# Altium schematic symbol library devices.SCHLIB: 305 symbols (part 4 of 5)
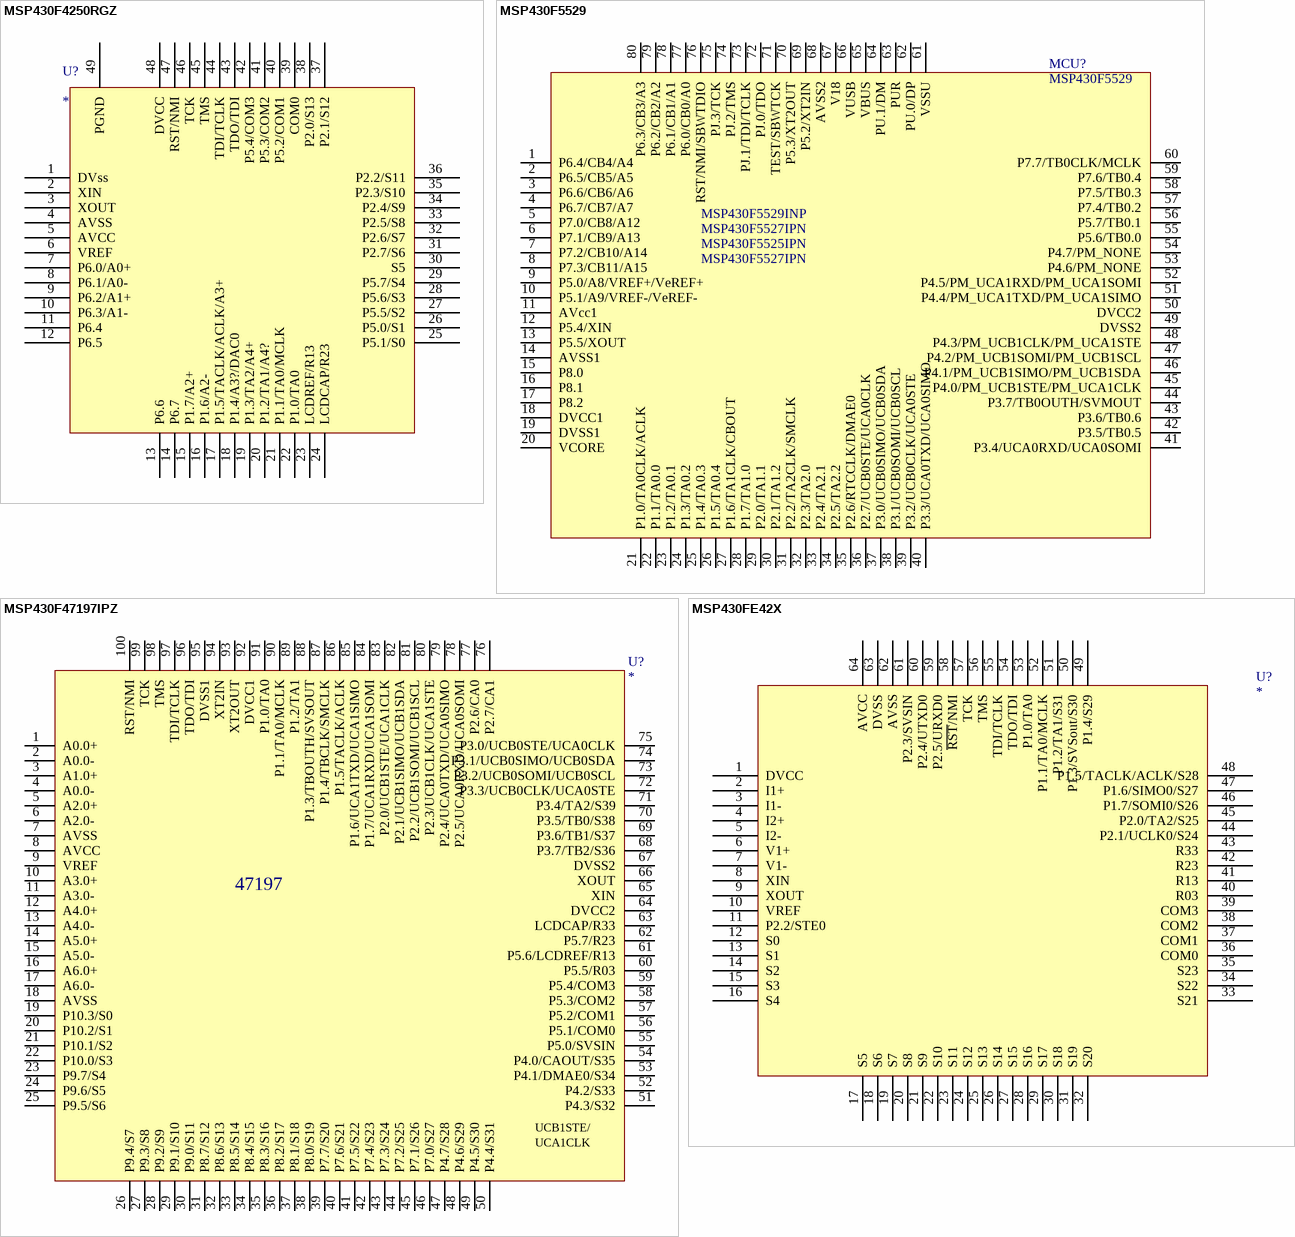
[diagram p52: symbols MSP430F4250RGZ to MSP430FE42X]

## MSP430F5529
designator MCU?
footprint S-PQFP-G80
pins: 1 P6.4/CB4/A4, 2 P6.5/CB5/A5, 3 P6.6/CB6/A6, 4 P6.7/CB7/A7, 5 P7.0/CB8/A12, 6 P7.1/CB9/A13, 7 P7.2/CB10/A14, 8 P7.3/CB11/A15, 9 P5.0/A8/VREF+/VeREF+, 10 P5.1/A9/VREF-/VeREF-, 11 AVcc1, 12 P5.4/XIN, 13 P5.5/XOUT, 14 AVSS1, 15 P8.0, 16 P8.1, 17 P8.2, 18 DVCC1, 19 DVSS1, 20 VCORE, 21 P1.0/TA0CLK/ACLK, 22 P1.1/TA0.0, 23 P1.2/TA0.1, 24 P1.3/TA0.2, 25 P1.4/TA0.3, 26 P1.5/TA0.4, 27 P1.6/TA1CLK/CBOUT, 28 P1.7/TA1.0, 29 P2.0/TA1.1, 30 P2.1/TA1.2, 31 P2.2/TA2CLK/SMCLK, 32 P2.3/TA2.0, 33 P2.4/TA2.1, 34 P2.5/TA2.2, 35 P2.6/RTCCLK/DMAE0, 36 P2.7/UCB0STE/UCA0CLK, 37 P3.0/UCB0SIMO/UCB0SDA, 38 P3.1/UCB0SOMI/UCB0SCL, 39 P3.2/UCB0CLK/UCA0STE, 40 P3.3/UCA0TXD/UCA0SIMO, 41 P3.4/UCA0RXD/UCA0SOMI, 42 P3.5/TB0.5, 43 P3.6/TB0.6, 44 P3.7/TB0OUTH/SVMOUT, 45 P4.0/PM_UCB1STE/PM_UCA1CLK, 46 P4.1/PM_UCB1SIMO/PM_UCB1SDA, 47 P4.2/PM_UCB1SOMI/PM_UCB1SCL, 48 P4.3/PM_UCB1CLK/PM_UCA1STE, 49 DVSS2, 50 DVCC2, 51 P4.4/PM_UCA1TXD/PM_UCA1SIMO, 52 P4.5/PM_UCA1RXD/PM_UCA1SOMI, 53 P4.6/PM_NONE, 54 P4.7/PM_NONE, 55 P5.6/TB0.0, 56 P5.7/TB0.1, 57 P7.4/TB0.2, 58 P7.5/TB0.3, 59 P7.6/TB0.4, 60 P7.7/TB0CLK/MCLK, 61 VSSU, 62 PU.0/DP, 63 PUR, 64 PU.1/DM, 65 VBUS, 66 VUSB, 67 V18, 68 AVSS2, 69 P5.2/XT2IN, 70 P5.3/XT2OUT, 71 TEST/SBWTCK, 72 PJ.0/TDO, 73 PJ.1/TDI/TCLK, 74 PJ.2/TMS, 75 PJ.3/TCK, 76 RST/NMI/SBWTDIO, 77 P6.0/CB0/A0, 78 P6.1/CB1/A1, 79 P6.2/CB2/A2, 80 P6.3/CB3/A3
text: MSP430F5529INP; MSP430F5527IPN; MSP430F5525IPN

## MSP430F47197IPZ
designator U?
footprint S-PQFP-G100
pins: 1 A0.0+, 2 A0.0-, 3 A1.0+, 4 A0.0-, 5 A2.0+, 6 A2.0-, 7 AVSS, 8 AVCC, 9 VREF, 10 A3.0+, 11 A3.0-, 12 A4.0+, 13 A4.0-, 14 A5.0+, 15 A5.0-, 16 A6.0+, 17 A6.0-, 18 AVSS, 19 P10.3/S0, 20 P10.2/S1, 21 P10.1/S2, 22 P10.0/S3, 23 P9.7/S4, 24 P9.6/S5, 25 P9.5/S6, 26 P9.4/S7, 27 P9.3/S8, 28 P9.2/S9, 29 P9.1/S10, 30 P9.0/S11, 31 P8.7/S12, 32 P8.6/S13, 33 P8.5/S14, 34 P8.4/S15, 35 P8.3/S16, 36 P8.2/S17, 37 P8.1/S18, 38 P8.0/S19, 39 P7.7/S20, 40 P7.6/S21, 41 P7.5/S22, 42 P7.4/S23, 43 P7.3/S24, 44 P7.2/S25, 45 P7.1/S26, 46 P7.0/S27, 47 P4.7/S28, 48 P4.6/S29, 49 P4.5/S30, 50 P4.4/S31, 51 P4.3/S32, 52 P4.2/S33, 53 P4.1/DMAE0/S34, 54 P4.0/CAOUT/S35, 55 P5.0/SVSIN, 56 P5.1/COM0, 57 P5.2/COM1, 58 P5.3/COM2, 59 P5.4/COM3, 60 P5.5/R03, 61 P5.6/LCDREF/R13, 62 P5.7/R23, 63 LCDCAP/R33, 64 DVCC2, 65 XIN, 66 XOUT, 67 DVSS2, 68 P3.7/TB2/S36, 69 P3.6/TB1/S37, 70 P3.5/TB0/S38, 71 P3.4/TA2/S39, 72 P3.3/UCB0CLK/UCA0STE, 73 P3.2/UCB0SOMI/UCB0SCL, 74 P3.1/UCB0SIMO/UCB0SDA, 75 P3.0/UCB0STE/UCA0CLK, 76 P2.7/CA1, 77 P2.6/CA0, 78 P2.5/UCA0RXD/UCA0SOMI, 79 P2.4/UCA0TXD/UCA0SIMO, 80 P2.3/UCB1CLK/UCA1STE, 81 P2.2/UCB1SOMI/UCB1SCL, 82 P2.1/UCB1SIMO/UCB1SDA, 83 P2.0/UCB1STE/UCA1CLK, 84 P1.7/UCA1RXD/UCA1SOMI, 85 P1.6/UCA1TXD/UCA1SIMO, 86 P1.5/TACLK/ACLK, 87 P1.4/TBCLK/SMCLK, 88 P1.3/TBOUTH/SVSOUT, 89 P1.2/TA1, 90 P1.1/TA0/MCLK, 91 P1.0/TA0, 92 DVCC1, 93 XT2OUT, 94 XT2IN, 95 DVSS1, 96 TDO/TDI, 97 TDI/TCLK, 98 TMS, 99 TCK, 100 RST/NMI
text: 47197; UCB1STE/; UCA1CLK

## MSP430FE42X
designator U?
footprint S-PQFP-G64
pins: 1 DVCC, 2 I1+, 3 I1-, 4 I2+, 5 I2-, 6 V1+, 7 V1-, 8 XIN, 9 XOUT, 10 VREF, 11 P2.2/STE0, 12 S0, 13 S1, 14 S2, 15 S3, 16 S4, 17 S5, 18 S6, 19 S7, 20 S8, 21 S9, 22 S10, 23 S11, 24 S12, 25 S13, 26 S14, 27 S15, 28 S16, 29 S17, 30 S18, 31 S19, 32 S20, 33 S21, 34 S22, 35 S23, 36 COM0, 37 COM1, 38 COM2, 39 COM3, 40 R03, 41 R13, 42 R23, 43 R33, 44 P2.1/UCLK0/S24, 45 P2.0/TA2/S25, 46 P1.7/SOMI0/S26, 47 P1.6/SIMO0/S27, 48 P1.5/TACLK/ACLK/S28, 49 P1.4/S29, 50 P1.3/SVSout/S30, 51 P1.2/TA1/S31, 52 P1.1/TA0/MCLK, 53 P1.0/TA0, 54 TDO/TDI, 55 TDI/TCLK, 56 TMS, 57 TCK, 58 ~{RST}/NMI, 59 P2.5/URXD0, 60 P2.4/UTXD0, 61 P2.3/SVSIN, 62 AVSS, 63 DVSS, 64 AVCC

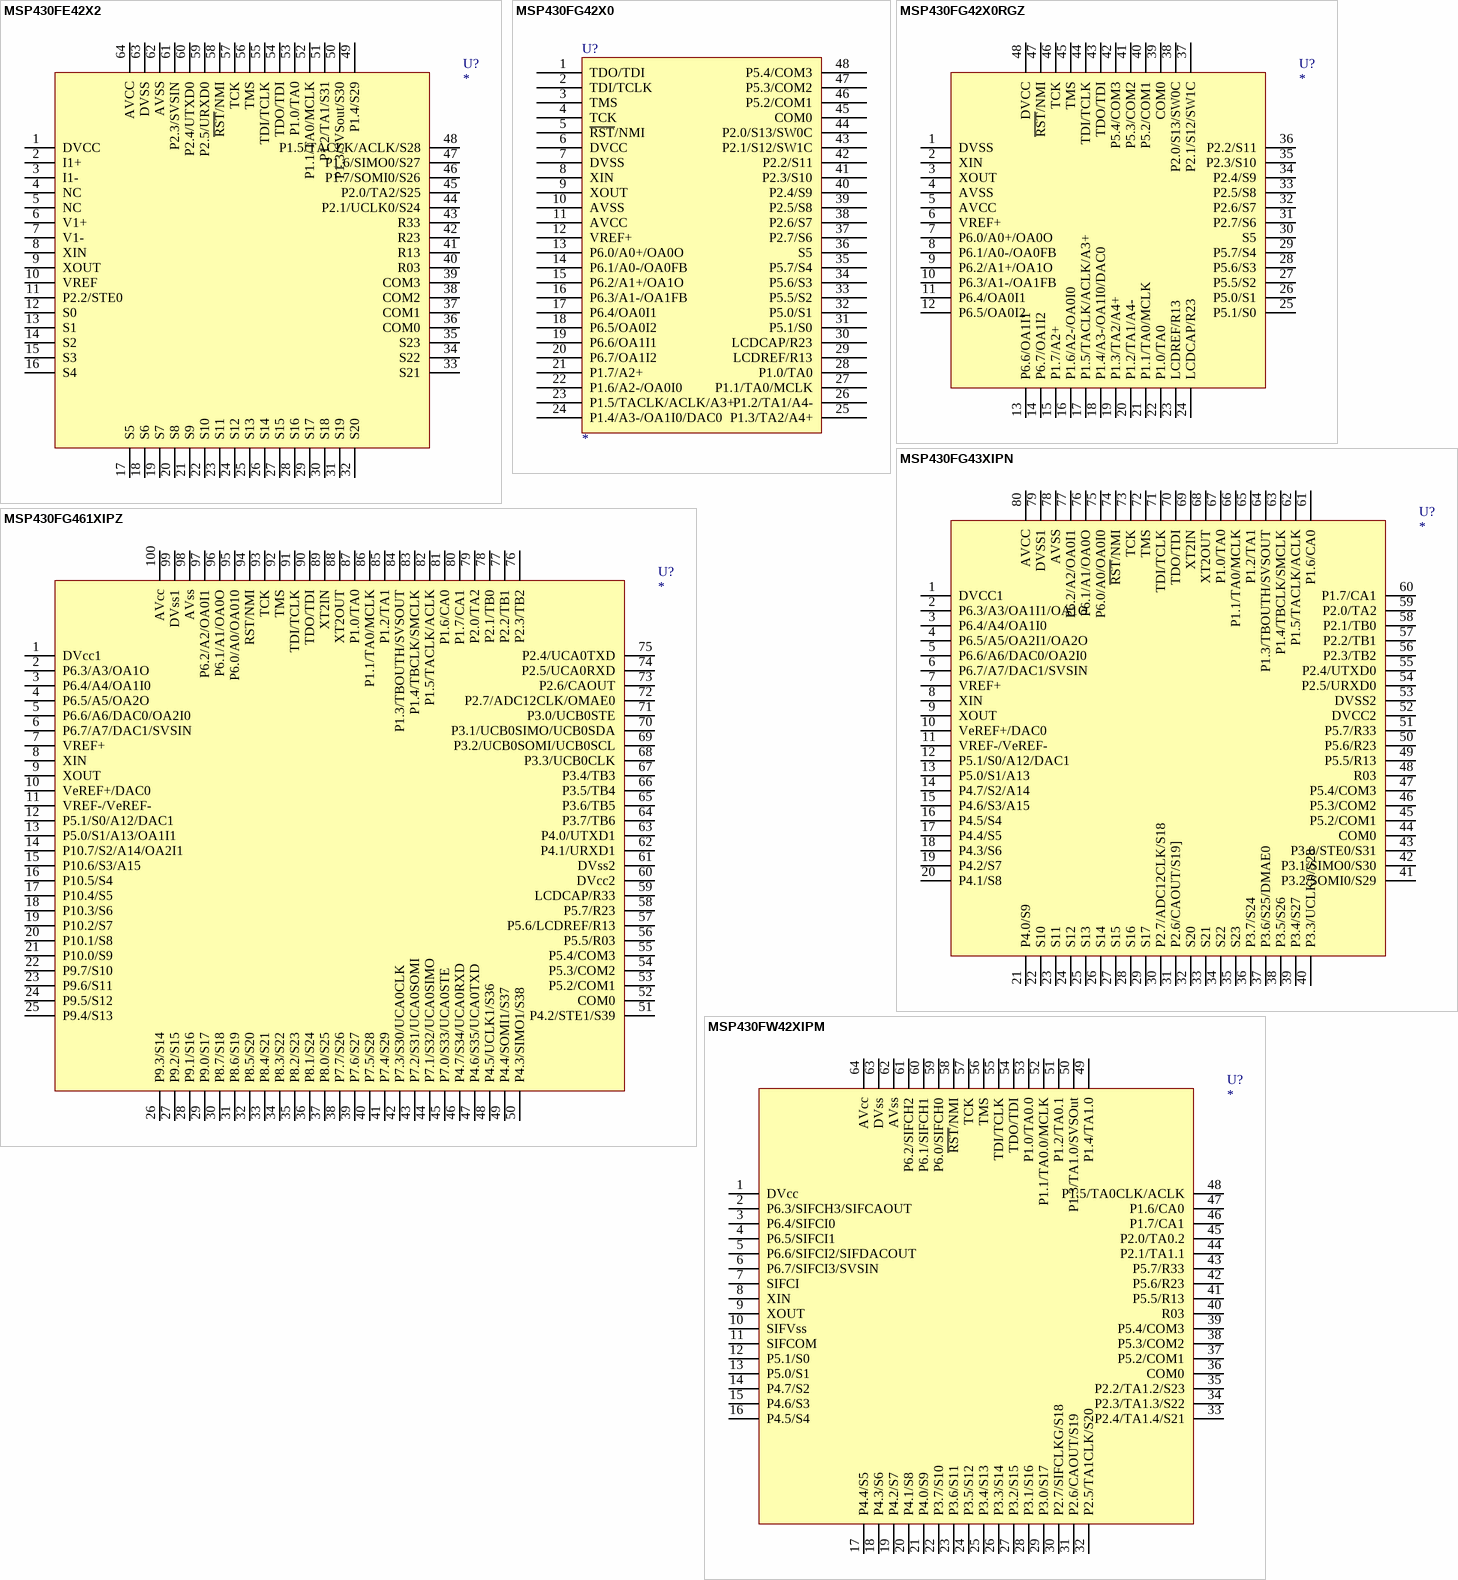
[diagram p23: symbols MSP430FE42X2 to MSP430FW42XIPM]

## MSP430FE42X2
designator U?
footprint S-PQFP-G64
pins: 1 DVCC, 2 I1+, 3 I1-, 4 NC, 5 NC, 6 V1+, 7 V1-, 8 XIN, 9 XOUT, 10 VREF, 11 P2.2/STE0, 12 S0, 13 S1, 14 S2, 15 S3, 16 S4, 17 S5, 18 S6, 19 S7, 20 S8, 21 S9, 22 S10, 23 S11, 24 S12, 25 S13, 26 S14, 27 S15, 28 S16, 29 S17, 30 S18, 31 S19, 32 S20, 33 S21, 34 S22, 35 S23, 36 COM0, 37 COM1, 38 COM2, 39 COM3, 40 R03, 41 R13, 42 R23, 43 R33, 44 P2.1/UCLK0/S24, 45 P2.0/TA2/S25, 46 P1.7/SOMI0/S26, 47 P1.6/SIMO0/S27, 48 P1.5/TACLK/ACLK/S28, 49 P1.4/S29, 50 P1.3/SVSout/S30, 51 P1.2/TA1/S31, 52 P1.1/TA0/MCLK, 53 P1.0/TA0, 54 TDO/TDI, 55 TDI/TCLK, 56 TMS, 57 TCK, 58 ~{RST}/NMI, 59 P2.5/URXD0, 60 P2.4/UTXD0, 61 P2.3/SVSIN, 62 AVSS, 63 DVSS, 64 AVCC

## MSP430FG42X0
designator U?
footprint SSOP48
pins: 1 TDO/TDI, 2 TDI/TCLK (power), 3 TMS (power), 4 TCK (power), 5 ~{RST}/NMI (power), 6 DVCC (power), 7 DVSS (power), 8 XIN (power), 9 XOUT (power), 10 AVSS (power), 11 AVCC (power), 12 VREF+ (power), 13 P6.0/A0+/OA0O (power), 14 P6.1/A0-/OA0FB (power), 15 P6.2/A1+/OA1O (power), 16 P6.3/A1-/OA1FB (power), 17 P6.4/OA0I1 (power), 18 P6.5/OA0I2 (power), 19 P6.6/OA1I1 (power), 20 P6.7/OA1I2 (power), 21 P1.7/A2+, 22 P1.6/A2-/OA0I0, 23 P1.5/TACLK/ACLK/A3+, 24 P1.4/A3-/OA1I0/DAC0, 25 P1.3/TA2/A4+, 26 P1.2/TA1/A4-, 27 P1.1/TA0/MCLK, 28 P1.0/TA0, 29 LCDREF/R13, 30 LCDCAP/R23, 31 P5.1/S0, 32 P5.0/S1, 33 P5.5/S2, 34 P5.6/S3, 35 P5.7/S4, 36 S5, 37 P2.7/S6, 38 P2.6/S7, 39 P2.5/S8, 40 P2.4/S9, 41 P2.3/S10, 42 P2.2/S11, 43 P2.1/S12/SW1C, 44 P2.0/S13/SW0C, 45 COM0, 46 P5.2/COM1, 47 P5.3/COM2, 48 P5.4/COM3

## MSP430FG42X0RGZ
designator U?
footprint QLP48
pins: 1 DVSS (power), 2 XIN (power), 3 XOUT (power), 4 AVSS (power), 5 AVCC (power), 6 VREF+ (power), 7 P6.0/A0+/OA0O (power), 8 P6.1/A0-/OA0FB (power), 9 P6.2/A1+/OA1O (power), 10 P6.3/A1-/OA1FB (power), 11 P6.4/OA0I1 (power), 12 P6.5/OA0I2 (power), 13 P6.6/OA1I1 (power), 14 P6.7/OA1I2 (power), 15 P1.7/A2+, 16 P1.6/A2-/OA0I0, 17 P1.5/TACLK/ACLK/A3+, 18 P1.4/A3-/OA1I0/DAC0, 19 P1.3/TA2/A4+, 20 P1.2/TA1/A4-, 21 P1.1/TA0/MCLK, 22 P1.0/TA0, 23 LCDREF/R13, 24 LCDCAP/R23, 25 P5.1/S0, 26 P5.0/S1, 27 P5.5/S2, 28 P5.6/S3, 29 P5.7/S4, 30 S5, 31 P2.7/S6, 32 P2.6/S7, 33 P2.5/S8, 34 P2.4/S9, 35 P2.3/S10, 36 P2.2/S11, 37 P2.1/S12/SW1C, 38 P2.0/S13/SW0C, 39 COM0, 40 P5.2/COM1, 41 P5.3/COM2, 42 P5.4/COM3, 43 TDO/TDI, 44 TDI/TCLK (power), 45 TMS (power), 46 TCK (power), 47 ~{RST}/NMI (power), 48 DVCC (power)

## MSP430FG43XIPN
designator U?
footprint S-PQFP-G80
pins: 1 DVCC1, 2 P6.3/A3/OA1I1/OA1O, 3 P6.4/A4/OA1I0, 4 P6.5/A5/OA2I1/OA2O, 5 P6.6/A6/DAC0/OA2I0, 6 P6.7/A7/DAC1/SVSIN, 7 VREF+, 8 XIN, 9 XOUT, 10 VeREF+/DAC0, 11 VREF-/VeREF-, 12 P5.1/S0/A12/DAC1, 13 P5.0/S1/A13, 14 P4.7/S2/A14, 15 P4.6/S3/A15, 16 P4.5/S4, 17 P4.4/S5, 18 P4.3/S6, 19 P4.2/S7, 20 P4.1/S8, 21 P4.0/S9, 22 S10, 23 S11, 24 S12, 25 S13, 26 S14, 27 S15, 28 S16, 29 S17, 30 P2.7/ADC12CLK/S18, 31 P2.6/CAOUT/S19], 32 S20, 33 S21, 34 S22, 35 S23, 36 P3.7/S24, 37 P3.6/S25/DMAE0, 38 P3.5/S26, 39 P3.4/S27, 40 P3.3/UCLK0/S28, 41 P3.2/SOMI0/S29, 42 P3.1/SIMO0/S30, 43 P3.0/STE0/S31, 44 COM0, 45 P5.2/COM1, 46 P5.3/COM2, 47 P5.4/COM3, 48 R03, 49 P5.5/R13, 50 P5.6/R23, 51 P5.7/R33, 52 DVCC2, 53 DVSS2, 54 P2.5/URXD0, 55 P2.4/UTXD0, 56 P2.3/TB2, 57 P2.2/TB1, 58 P2.1/TB0, 59 P2.0/TA2, 60 P1.7/CA1, 61 P1.6/CA0, 62 P1.5/TACLK/ACLK, 63 P1.4/TBCLK/SMCLK, 64 P1.3/TBOUTH/SVSOUT, 65 P1.2/TA1, 66 P1.1/TA0/MCLK, 67 P1.0/TA0, 68 XT2OUT, 69 XT2IN, 70 TDO/TDI, 71 TDI/TCLK, 72 TMS, 73 TCK, 74 ~{RST}/NMI, 75 P6.0/A0/OA0I0, 76 P6.1/A1/OA0O, 77 P6.2/A2/OA0I1, 78 AVSS, 79 DVSS1, 80 AVCC

## MSP430FG461XIPZ
designator U?
footprint S-PQFP-G100
pins: 1 DVcc1, 2 P6.3/A3/OA1O, 3 P6.4/A4/OA1I0, 4 P6.5/A5/OA2O, 5 P6.6/A6/DAC0/OA2I0, 6 P6.7/A7/DAC1/SVSIN, 7 VREF+, 8 XIN, 9 XOUT, 10 VeREF+/DAC0, 11 VREF-/VeREF-, 12 P5.1/S0/A12/DAC1, 13 P5.0/S1/A13/OA1I1, 14 P10.7/S2/A14/OA2I1, 15 P10.6/S3/A15, 16 P10.5/S4, 17 P10.4/S5, 18 P10.3/S6, 19 P10.2/S7, 20 P10.1/S8, 21 P10.0/S9, 22 P9.7/S10, 23 P9.6/S11, 24 P9.5/S12, 25 P9.4/S13, 26 P9.3/S14, 27 P9.2/S15, 28 P9.1/S16, 29 P9.0/S17, 30 P8.7/S18, 31 P8.6/S19, 32 P8.5/S20, 33 P8.4/S21, 34 P8.3/S22, 35 P8.2/S23, 36 P8.1/S24, 37 P8.0/S25, 38 P7.7/S26, 39 P7.6/S27, 40 P7.5/S28, 41 P7.4/S29, 42 P7.3/S30/UCA0CLK, 43 P7.2/S31/UCA0SOMI, 44 P7.1/S32/UCA0SIMO, 45 P7.0/S33/UCA0STE, 46 P4.7/S34/UCA0RXD, 47 P4.6/S35/UCA0TXD, 48 P4.5/UCLK1/S36, 49 P4.4/SOMI1/S37, 50 P4.3/SIMO1/S38, 51 P4.2/STE1/S39, 52 COM0, 53 P5.2/COM1, 54 P5.3/COM2, 55 P5.4/COM3, 56 P5.5/R03, 57 P5.6/LCDREF/R13, 58 P5.7/R23, 59 LCDCAP/R33, 60 DVcc2, 61 DVss2, 62 P4.1/URXD1, 63 P4.0/UTXD1, 64 P3.7/TB6, 65 P3.6/TB5, 66 P3.5/TB4, 67 P3.4/TB3, 68 P3.3/UCB0CLK, 69 P3.2/UCB0SOMI/UCB0SCL, 70 P3.1/UCB0SIMO/UCB0SDA, 71 P3.0/UCB0STE, 72 P2.7/ADC12CLK/OMAE0, 73 P2.6/CAOUT, 74 P2.5/UCA0RXD, 75 P2.4/UCA0TXD, 76 P2.3/TB2, 77 P2.2/TB1, 78 P2.1/TB0, 79 P2.0/TA2, 80 P1.7/CA1, 81 P1.6/CA0, 82 P1.5/TACLK/ACLK, 83 P1.4/TBCLK/SMCLK, 84 P1.3/TBOUTH/SVSOUT, 85 P1.2/TA1, 86 P1.1/TA0/MCLK, 87 P1.0/TA0, 88 XT2OUT, 89 XT2IN, 90 TDO/TDI, 91 TDI/TCLK, 92 TMS, 93 TCK, 94 RST/NMI, 95 P6.0/A0/OA010, 96 P6.1/A1/OA0O, 97 P6.2/A2/OA0I1, 98 AVss, 99 DVss1, 100 AVcc

## MSP430FW42XIPM
designator U?
footprint S-PQFP-G64
pins: 1 DVcc (power), 2 P6.3/SIFCH3/SIFCAOUT (power), 3 P6.4/SIFCI0 (power), 4 P6.5/SIFCI1 (power), 5 P6.6/SIFCI2/SIFDACOUT (power), 6 P6.7/SIFCI3/SVSIN (power), 7 SIFCI (power), 8 XIN (power), 9 XOUT (power), 10 SIFVss (power), 11 SIFCOM (power), 12 P5.1/S0 (power), 13 P5.0/S1 (power), 14 P4.7/S2 (power), 15 P4.6/S3 (power), 16 P4.5/S4 (power), 17 P4.4/S5 (power), 18 P4.3/S6 (power), 19 P4.2/S7 (power), 20 P4.1/S8 (power), 21 P4.0/S9 (power), 22 P3.7/S10 (power), 23 P3.6/S11 (power), 24 P3.5/S12 (power), 25 P3.4/S13 (power), 26 P3.3/S14 (power), 27 P3.2/S15 (power), 28 P3.1/S16 (power), 29 P3.0/S17 (power), 30 P2.7/SIFCLKG/S18 (power), 31 P2.6/CAOUT/S19 (power), 32 P2.5/TA1CLK/S20 (power), 33 P2.4/TA1.4/S21 (power), 34 P2.3/TA1.3/S22 (power), 35 P2.2/TA1.2/S23 (power), 36 COM0 (power), 37 P5.2/COM1 (power), 38 P5.3/COM2 (power), 39 P5.4/COM3 (power), 40 R03 (power), 41 P5.5/R13 (power), 42 P5.6/R23 (power), 43 P5.7/R33 (power), 44 P2.1/TA1.1 (power), 45 P2.0/TA0.2 (power), 46 P1.7/CA1 (power), 47 P1.6/CA0 (power), 48 P1.5/TA0CLK/ACLK (power), 49 P1.4/TA1.0 (power), 50 P1.3/TA1.0/SVSOut (power), 51 P1.2/TA0.1 (power), 52 P1.1/TA0.0/MCLK (power), 53 P1.0/TA0.0 (power), 54 TDO/TDI (power), 55 TDI/TCLK (power), 56 TMS (power), 57 TCK (power), 58 ~{RST}/NMI (power), 59 P6.0/SIFCH0 (power), 60 P6.1/SIFCH1 (power), 61 P6.2/SIFCH2 (power), 62 AVss (power), 63 DVss (power), 64 AVcc (power)

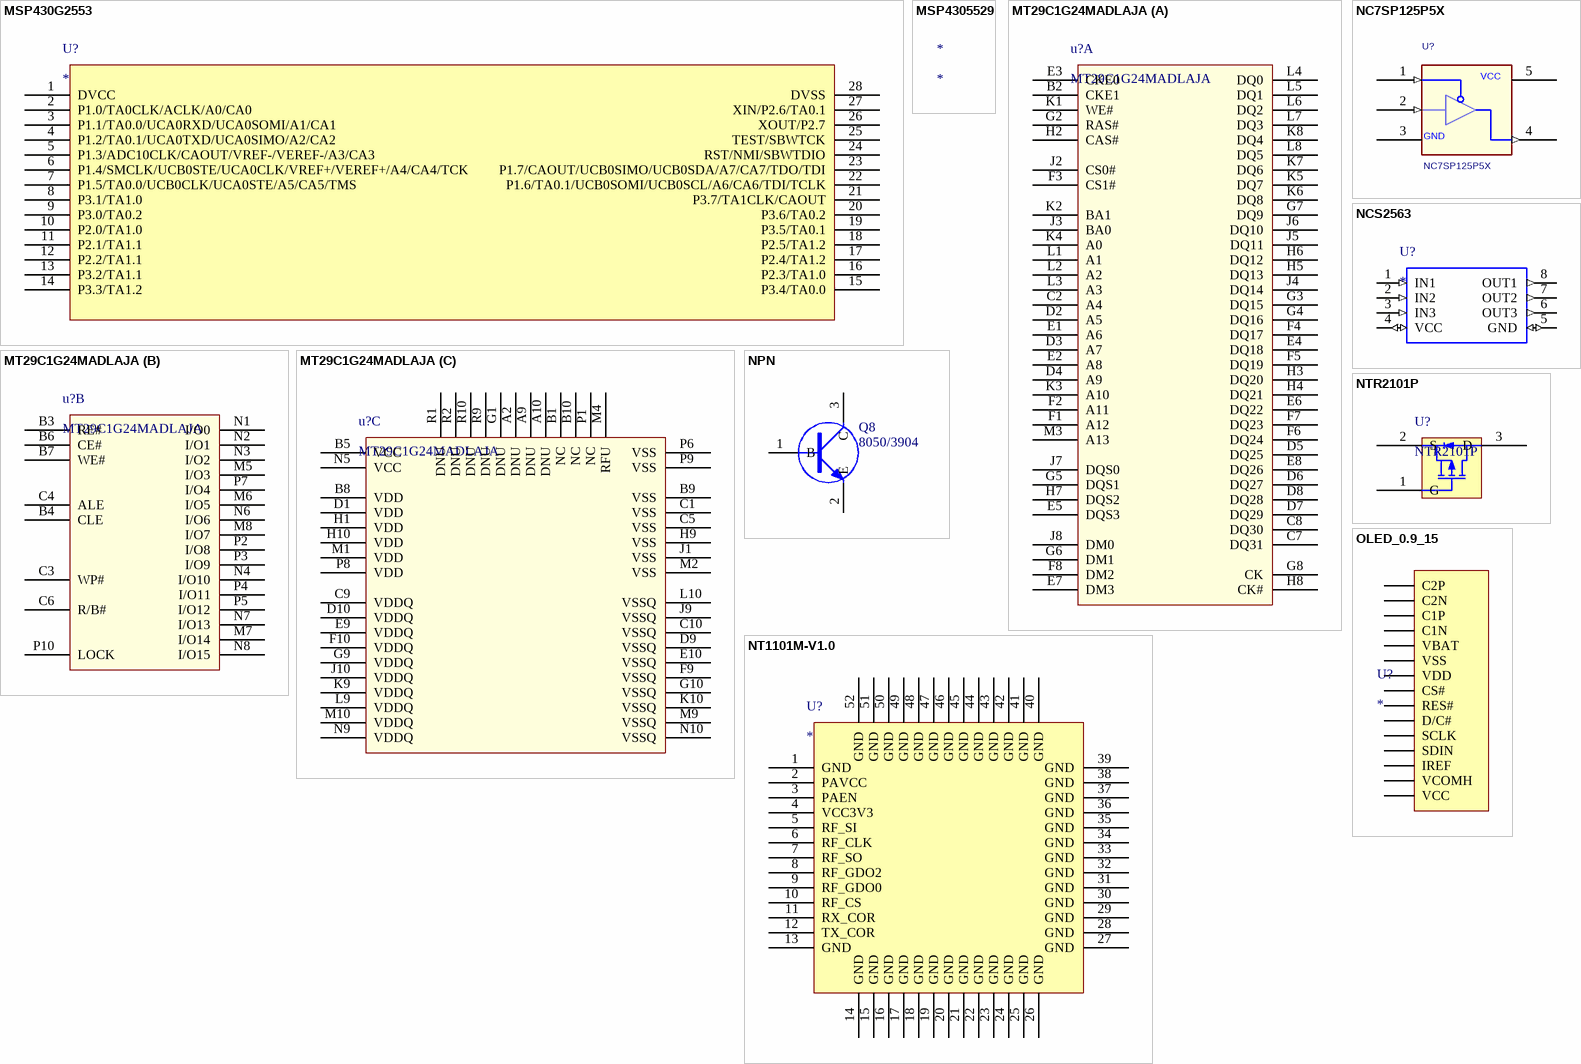
[diagram p24: symbols MSP430G2553 to OLED_0.9_15]

## MSP430G2553
designator U?
pins: 1 DVCC, 2 P1.0/TA0CLK/ACLK/A0/CA0, 3 P1.1/TA0.0/UCA0RXD/UCA0SOMI/A1/CA1, 4 P1.2/TA0.1/UCA0TXD/UCA0SIMO/A2/CA2, 5 P1.3/ADC10CLK/CAOUT/VREF-/VEREF-/A3/CA3, 6 P1.4/SMCLK/UCB0STE/UCA0CLK/VREF+/VEREF+/A4/CA4/TCK, 7 P1.5/TA0.0/UCB0CLK/UCA0STE/A5/CA5/TMS, 8 P3.1/TA1.0, 9 P3.0/TA0.2, 10 P2.0/TA1.0, 11 P2.1/TA1.1, 12 P2.2/TA1.1, 13 P3.2/TA1.1, 14 P3.3/TA1.2, 15 P3.4/TA0.0, 16 P2.3/TA1.0, 17 P2.4/TA1.2, 18 P2.5/TA1.2, 19 P3.5/TA0.1, 20 P3.6/TA0.2, 21 P3.7/TA1CLK/CAOUT, 22 P1.6/TA0.1/UCB0SOMI/UCB0SCL/A6/CA6/TDI/TCLK, 23 P1.7/CAOUT/UCB0SIMO/UCB0SDA/A7/CA7/TDO/TDI, 24 RST/NMI/SBWTDIO, 25 TEST/SBWTCK, 26 XOUT/P2.7, 27 XIN/P2.6/TA0.1, 28 DVSS

## MSP4305529
designator *

## MT29C1G24MADLAJA
designator u?
part A pins: B2 CKE1, C2 A4, C7 DQ31, C8 DQ30, D2 A5, D3 A7, D4 A9, D5 DQ25, D6 DQ27, D7 DQ29, D8 DQ28, E1 A6, E2 A8, E3 CKE0, E4 DQ18, E5 DQS3, E6 DQ22, E7 DM3, E8 DQ26, F1 A12, F2 A11, F3 CS1#, F4 DQ17, F5 DQ19, F6 DQ24, F7 DQ23, F8 DM2, G2 RAS#, G3 DQ15, G4 DQ16, G5 DQS1, G6 DM1, G7 DQ9, G8 CK, H2 CAS#, H3 DQ20, H4 DQ21, H5 DQ13, H6 DQ12, H7 DQS2, H8 CK#, J2 CS0#, J3 BA0, J4 DQ14, J5 DQ11, J6 DQ10, J7 DQS0, J8 DM0, K1 WE#, K2 BA1, K3 A10, K4 A0, K5 DQ7, K6 DQ8, K7 DQ6, K8 DQ4, L1 A1, L2 A2, L3 A3, L4 DQ0, L5 DQ1, L6 DQ2, L7 DQ3, L8 DQ5, M3 A13
part B pins: B3 RE#, B4 CLE, B6 CE#, B7 WE#, C3 WP#, C4 ALE, C6 R/B#, M5 I/O3, M6 I/O5, M7 I/O14, M8 I/O7, N1 I/O0, N2 I/O1, N3 I/O2, N4 I/O10, N6 I/O6, N7 I/O13, N8 I/O15, P2 I/O8, P3 I/O9, P4 I/O11, P5 I/O12, P7 I/O4, P10 LOCK
part C pins: A2 DNU, A9 DNU, A10 DNU, B1 NC, B5 VCC, B8 VDD, B9 VSS, B10 NC, C1 VSS, C5 VSS, C9 VDDQ, C10 VSSQ, D1 VDD, D9 VSSQ, D10 VDDQ, E9 VDDQ, E10 VSSQ, F9 VSSQ, F10 VDDQ, G1 DNU, G9 VDDQ, G10 VSSQ, H1 VDD, H9 VSS, H10 VDD, J1 VSS, J9 VSSQ, J10 VDDQ, K9 VDDQ, K10 VSSQ, L9 VDDQ, L10 VSSQ, M1 VDD, M2 VSS, M4 RFU, M9 VSSQ, M10 VDDQ, N5 VCC, N9 VDDQ, N10 VSSQ, P1 NC, P6 VSS, P8 VDD, P9 VSS, R1 DNU, R2 DNU, R9 DNU, R10 DNU

## NC7SP125P5X
designator U?
IC BUF TS 0.9-3.6V; CAD_APPROVED: Yes; MFG_NAME01: FAIRCHILD; AGILE_PN: 312-30153; HEIGHT: 1.1MM; ROHS: Yes; MFG_PN01: NC7SP125P5X
footprint SC70-5_A
pins: 1 ~{OE} (in), 2 A (in), 3 GND (power), 4 Y (out), 5 VCC (power)

## NCS2563
designator U?
pins: 1 IN1 (in), 2 IN2 (in), 3 IN3 (in), 4 VCC (io), 5 GND (io), 6 OUT3 (out), 7 OUT2 (out), 8 OUT1 (out)

## NPN
designator Q8, comment 8050/3904
NPN
footprint SOT-23
footprint SOT-23
pins: 1 B, 2 E, 3 C

## NT1101M-V1.0
designator U?
pins: 1 GND, 2 PAVCC, 3 PAEN, 4 VCC3V3, 5 RF_SI, 6 RF_CLK, 7 RF_SO, 8 RF_GDO2, 9 RF_GDO0, 10 RF_CS, 11 RX_COR, 12 TX_COR, 13 GND, 14 GND, 15 GND, 16 GND, 17 GND, 18 GND, 19 GND, 20 GND, 21 GND, 22 GND, 23 GND, 24 GND, 25 GND, 26 GND, 27 GND, 28 GND, 29 GND, 30 GND, 31 GND, 32 GND, 33 GND, 34 GND, 35 GND, 36 GND, 37 GND, 38 GND, 39 GND, 40 GND, 41 GND, 42 GND, 43 GND, 44 GND, 45 GND, 46 GND, 47 GND, 48 GND, 49 GND, 50 GND, 51 GND, 52 GND

## NTR2101P
designator U?
pins: 1 G, 2 S, 3 D

## OLED_0.9_15
designator U?
pins: 1 C2P, 2 C2N, 3 C1P, 4 C1N, 5 VBAT, 6 VSS, 7 VDD, 8 CS#, 9 RES#, 10 D/C#, 11 SCLK, 12 SDIN, 13 IREF, 14 VCOMH, 15 VCC

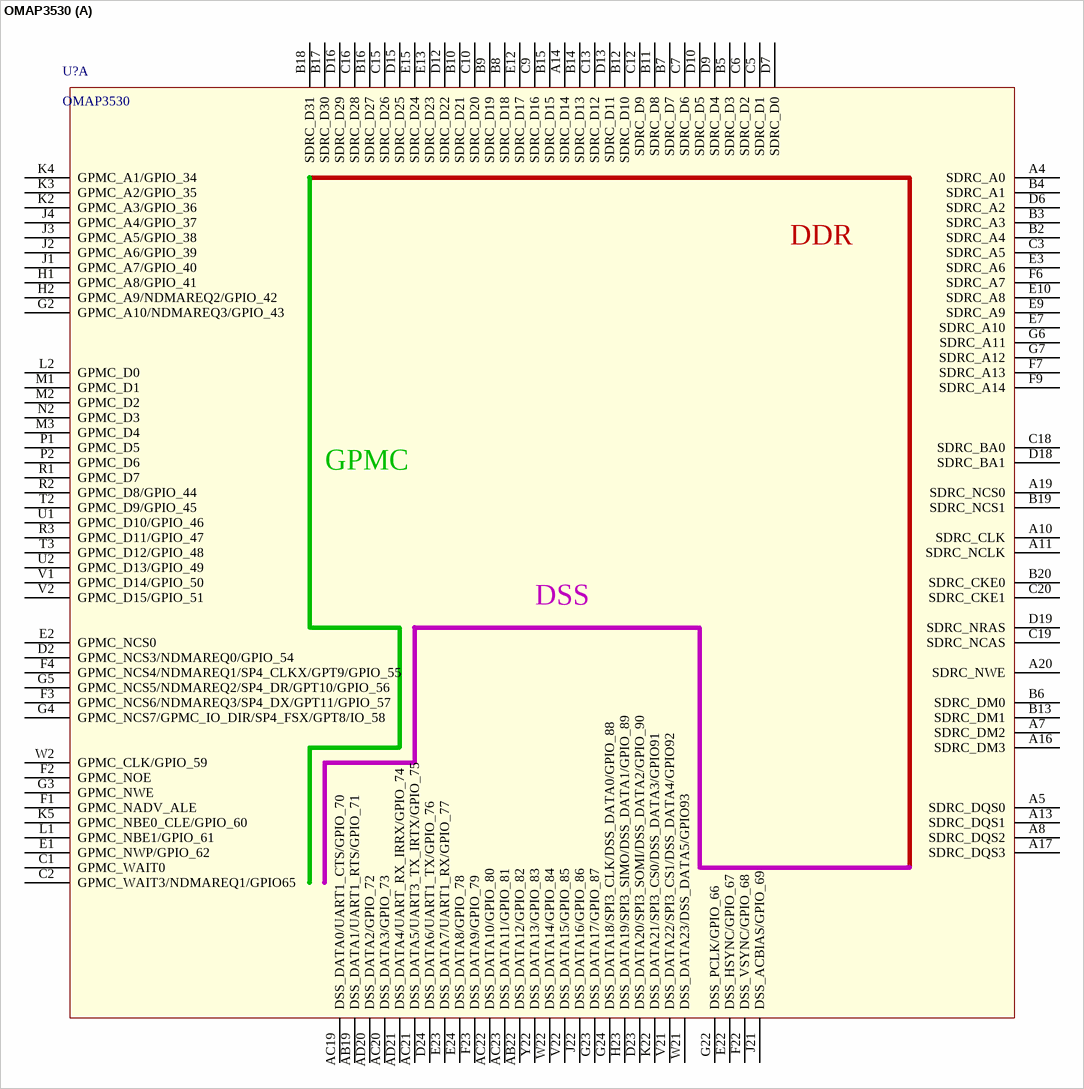
[diagram p25: symbol OMAP3530]

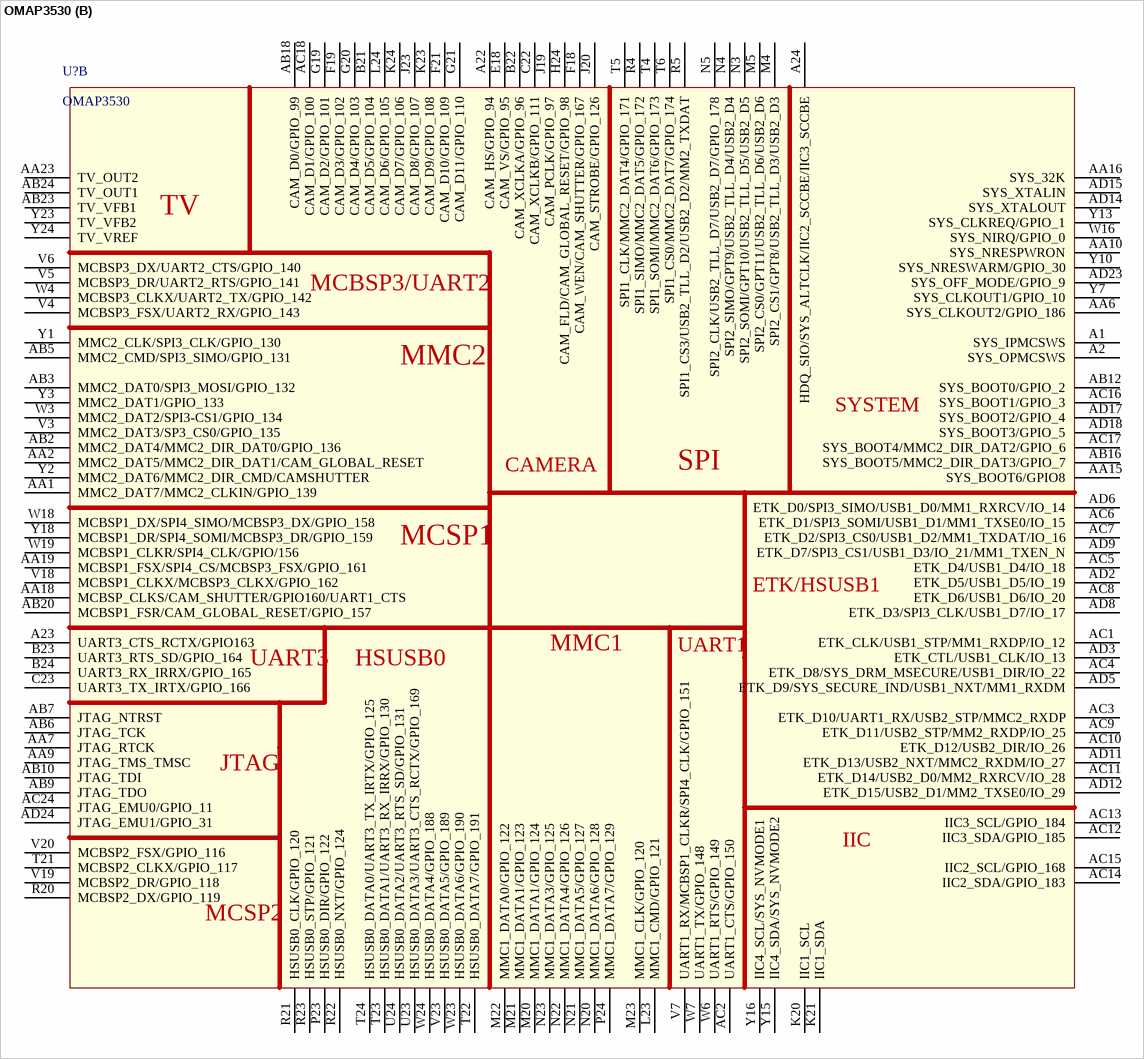
[diagram p26: symbol OMAP3530]

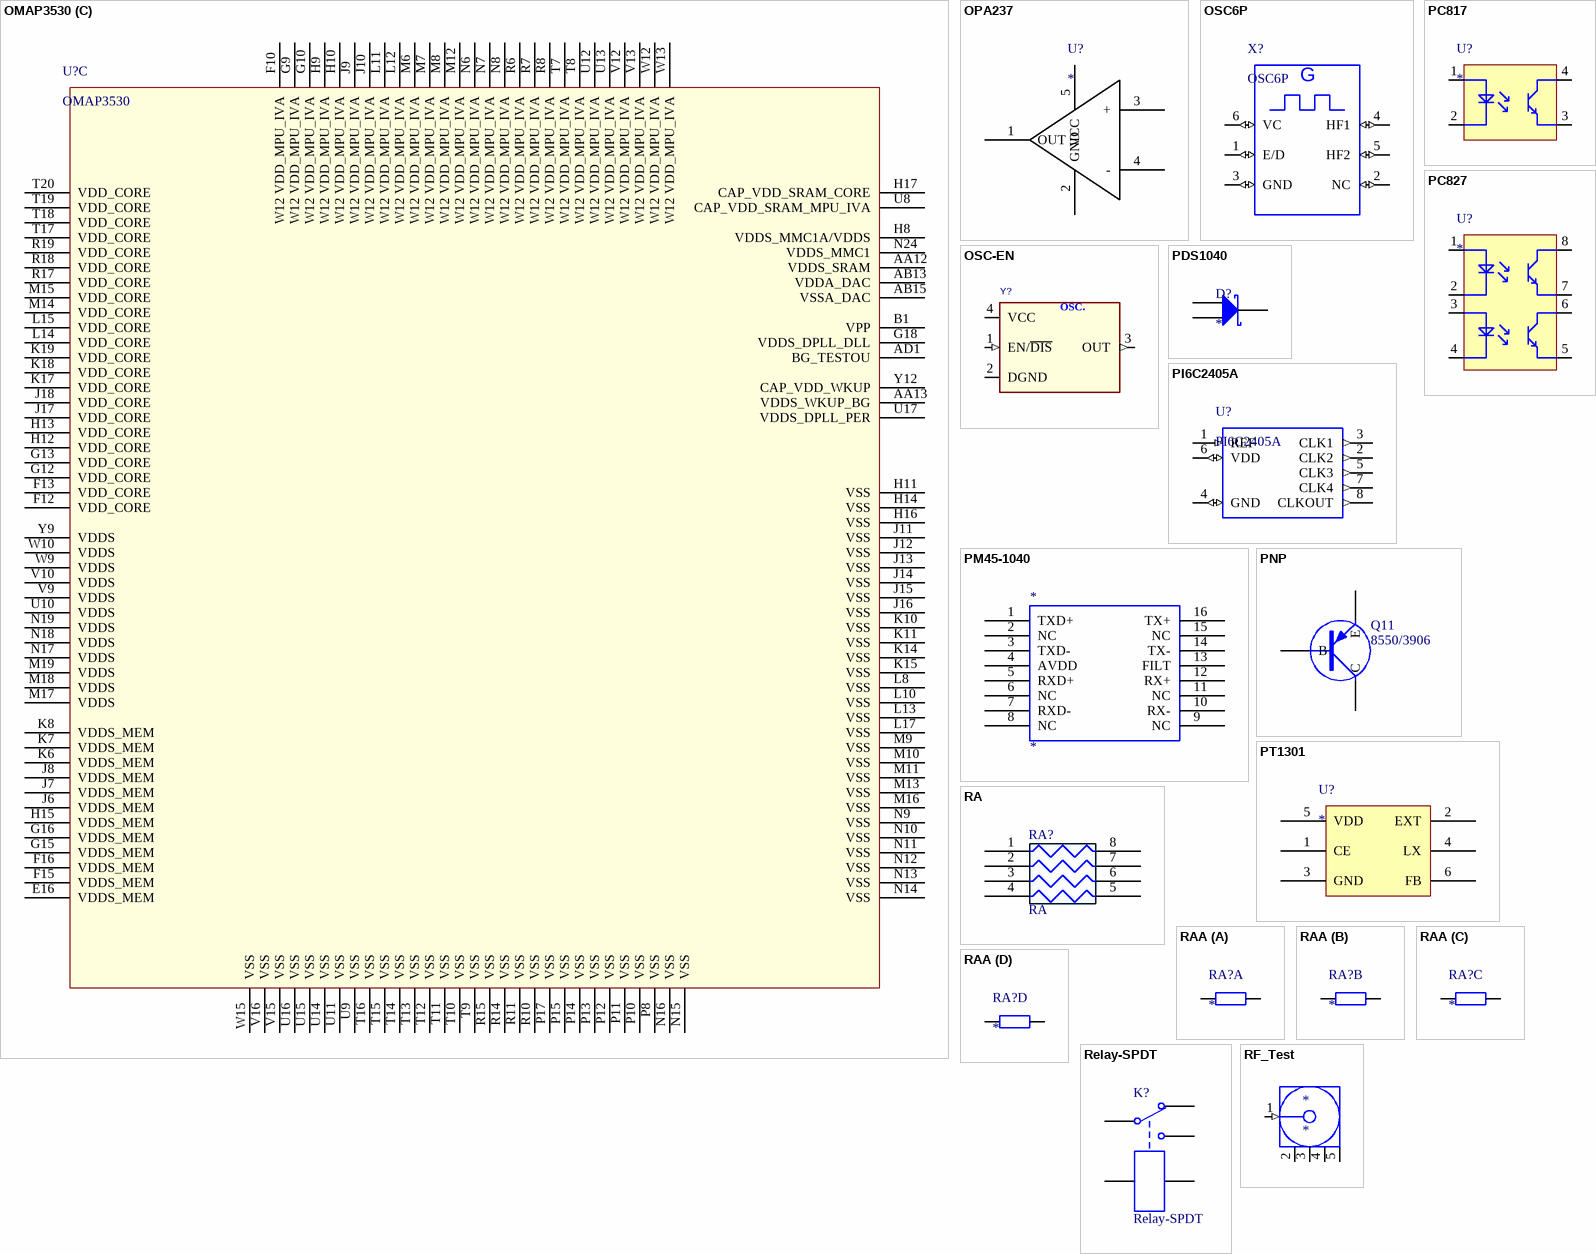
[diagram p27: symbols OMAP3530 to RF_Test]

## OMAP3530
designator U?
part A pins: A4 SDRC_A0, A5 SDRC_DQS0, A7 SDRC_DM2, A8 SDRC_DQS2, A10 SDRC_CLK, A11 SDRC_NCLK, A13 SDRC_DQS1, A14 SDRC_D14, A16 SDRC_DM3, A17 SDRC_DQS3, A19 SDRC_NCS0, A20 SDRC_NWE, AB19 DSS_DATA1/UART1_RTS/GPIO_71, AB22 DSS_DATA12/GPIO_82, AC19 DSS_DATA0/UART1_CTS/GPIO_70, AC20 DSS_DATA3/GPIO_73, AC21 DSS_DATA5/UART3_TX_IRTX/GPIO_75, AC22 DSS_DATA10/GPIO_80, AC23 DSS_DATA11/GPIO_81, AD20 DSS_DATA2/GPIO_72, AD21 DSS_DATA4/UART_RX_IRRX/GPIO_74, B2 SDRC_A4, B3 SDRC_A3, B4 SDRC_A1, B5 SDRC_D3, B6 SDRC_DM0, B7 SDRC_D7, B8 SDRC_D18, B9 SDRC_D19, B10 SDRC_D21, B11 SDRC_D8, B12 SDRC_D10, B13 SDRC_DM1, B14 SDRC_D13, B15 SDRC_D15, B16 SDRC_D27, B17 SDRC_D30, B18 SDRC_D31, B19 SDRC_NCS1, B20 SDRC_CKE0, C1 GPMC_WAIT0, C2 GPMC_WAIT3/NDMAREQ1/GPIO65, C3 SDRC_A5, C5 SDRC_D1, C6 SDRC_D2, C7 SDRC_D6, C9 SDRC_D16, C10 SDRC_D20, C12 SDRC_D9, C13 SDRC_D12, C15 SDRC_D26, C16 SDRC_D28, C18 SDRC_BA0, C19 SDRC_NCAS, C20 SDRC_CKE1, D2 GPMC_NCS3/NDMAREQ0/GPIO_54, D6 SDRC_A2, D7 SDRC_D0, D9 SDRC_D4, D10 SDRC_D5, D12 SDRC_D22, D13 SDRC_D11, D15 SDRC_D25, D16 SDRC_D29, D18 SDRC_BA1, D19 SDRC_NRAS, D23 DSS_DATA20/SPI3_SOMI/DSS_DATA2/GPIO_90, D24 DSS_DATA6/UART1_TX/GPIO_76, E1 GPMC_NWP/GPIO_62, E2 GPMC_NCS0, E3 SDRC_A6, E7 SDRC_A10, E9 SDRC_A9, E10 SDRC_A8, E12 SDRC_D17, E13 SDRC_D23, E15 SDRC_D24, E22 DSS_HSYNC/GPIO_67, E23 DSS_DATA7/UART1_RX/GPIO_77, E24 DSS_DATA8/GPIO_78, F1 GPMC_NADV_ALE, F2 GPMC_NOE, F3 GPMC_NCS6/NDMAREQ3/SP4_DX/GPT11/GPIO_57, F4 GPMC_NCS4/NDMAREQ1/SP4_CLKX/GPT9/GPIO_55, F6 SDRC_A7, F7 SDRC_A13, F9 SDRC_A14, F22 DSS_VSYNC/GPIO_68, F23 DSS_DATA9/GPIO_79, G2 GPMC_A10/NDMAREQ3/GPIO_43, G3 GPMC_NWE, G4 GPMC_NCS7/GPMC_IO_DIR/SP4_FSX/GPT8/IO_58, G5 GPMC_NCS5/NDMAREQ2/SP4_DR/GPT10/GPIO_56, G6 SDRC_A11, G7 SDRC_A12, G22 DSS_PCLK/GPIO_66, G23 DSS_DATA17/GPIO_87, G24 DSS_DATA18/SPI3_CLK/DSS_DATA0/GPIO_88, H1 GPMC_A8/GPIO_41, H2 GPMC_A9/NDMAREQ2/GPIO_42, H23 DSS_DATA19/SPI3_SIMO/DSS_DATA1/GPIO_89, J1 GPMC_A7/GPIO_40, J2 GPMC_A6/GPIO_39, J3 GPMC_A5/GPIO_38, J4 GPMC_A4/GPIO_37, J21 DSS_ACBIAS/GPIO_69, J22 DSS_DATA16/GPIO_86, K2 GPMC_A3/GPIO_36, K3 GPMC_A2/GPIO_35, K4 GPMC_A1/GPIO_34, K5 GPMC_NBE0_CLE/GPIO_60, K22 DSS_DATA21/SPI3_CS0/DSS_DATA3/GPIO91, L1 GPMC_NBE1/GPIO_61, L2 GPMC_D0, M1 GPMC_D1, M2 GPMC_D2, M3 GPMC_D4, N2 GPMC_D3, P1 GPMC_D5, P2 GPMC_D6, R1 GPMC_D7, R2 GPMC_D8/GPIO_44, R3 GPMC_D11/GPIO_47, T2 GPMC_D9/GPIO_45, T3 GPMC_D12/GPIO_48, U1 GPMC_D10/GPIO_46, U2 GPMC_D13/GPIO_49, V1 GPMC_D14/GPIO_50, V2 GPMC_D15/GPIO_51, V21 DSS_DATA22/SPI3_CS1/DSS_DATA4/GPIO92, V22 DSS_DATA15/GPIO_85, W2 GPMC_CLK/GPIO_59, W21 DSS_DATA23/DSS_DATA5/GPIO93, W22 DSS_DATA14/GPIO_84, Y22 DSS_DATA13/GPIO_83
part B pins: A1 SYS_IPMCSWS, A2 SYS_OPMCSWS, A22 CAM_HS/GPIO_94, A23 UART3_CTS_RCTX/GPIO163, A24 HDQ_SIO/SYS_ALTCLK/IIC2_SCCBE/IIC3_SCCBE, AA1 MMC2_DAT7/MMC2_CLKIN/GPIO_139, AA2 MMC2_DAT5/MMC2_DIR_DAT1/CAM_GLOBAL_RESET, AA6 SYS_CLKOUT2/GPIO_186, AA7 JTAG_RTCK, AA9 JTAG_TMS_TMSC, AA10 SYS_NRESPWRON, AA15 SYS_BOOT6/GPIO8, AA16 SYS_32K, AA18 MCBSP_CLKS/CAM_SHUTTER/GPIO160/UART1_CTS, AA19 MCBSP1_FSX/SPI4_CS/MCBSP3_FSX/GPIO_161, AA23 TV_OUT2, AB2 MMC2_DAT4/MMC2_DIR_DAT0/GPIO_136, AB3 MMC2_DAT0/SPI3_MOSI/GPIO_132, AB5 MMC2_CMD/SPI3_SIMO/GPIO_131, AB6 JTAG_TCK, AB7 JTAG_NTRST, AB9 JTAG_TDO, AB10 JTAG_TDI, AB12 SYS_BOOT0/GPIO_2, AB16 SYS_BOOT5/MMC2_DIR_DAT3/GPIO_7, AB18 CAM_D0/GPIO_99, AB20 MCBSP1_FSR/CAM_GLOBAL_RESET/GPIO_157, AB23 TV_VFB1, AB24 TV_OUT1, AC1 ETK_CLK/USB1_STP/MM1_RXDP/IO_12, AC2 UART1_CTS/GPIO_150, AC3 ETK_D10/UART1_RX/USB2_STP/MMC2_RXDP, AC4 ETK_D8/SYS_DRM_MSECURE/USB1_DIR/IO_22, AC5 ETK_D4/USB1_D4/IO_18, AC6 ETK_D1/SPI3_SOMI/USB1_D1/MM1_TXSE0/IO_15, AC7 ETK_D2/SPI3_CS0/USB1_D2/MM1_TXDAT/IO_16, AC8 ETK_D6/USB1_D6/IO_20, AC9 ETK_D11/USB2_STP/MM2_RXDP/IO_25, AC10 ETK_D12/USB2_DIR/IO_26, AC11 ETK_D14/USB2_D0/MM2_RXRCV/IO_28, AC12 IIC3_SDA/GPIO_185, AC13 IIC3_SCL/GPIO_184, AC14 IIC2_SDA/GPIO_183, AC15 IIC2_SCL/GPIO_168, AC16 SYS_BOOT1/GPIO_3, AC17 SYS_BOOT4/MMC2_DIR_DAT2/GPIO_6, AC18 CAM_D1/GPIO_100, AC24 JTAG_EMU0/GPIO_11, AD2 ETK_D5/USB1_D5/IO_19, AD3 ETK_CTL/USB1_CLK/IO_13, AD5 ETK_D9/SYS_SECURE_IND/USB1_NXT/MM1_RXDM, AD6 ETK_D0/SPI3_SIMO/USB1_D0/MM1_RXRCV/IO_14, AD8 ETK_D3/SPI3_CLK/USB1_D7/IO_17, AD9 ETK_D7/SPI3_CS1/USB1_D3/IO_21/MM1_TXEN_N, AD11 ETK_D13/USB2_NXT/MMC2_RXDM/IO_27, AD12 ETK_D15/USB2_D1/MM2_TXSE0/IO_29, AD14 SYS_XTALOUT, AD15 SYS_XTALIN, AD17 SYS_BOOT2/GPIO_4, AD18 SYS_BOOT3/GPIO_5, AD23 SYS_OFF_MODE/GPIO_9, AD24 JTAG_EMU1/GPIO_31, B21 CAM_D5/GPIO_104, B22 CAM_XCLKA/GPIO_96, B23 UART3_RTS_SD/GPIO_164, B24 UART3_RX_IRRX/GPIO_165, C22 CAM_XCLKB/GPIO_111, C23 UART3_TX_IRTX/GPIO_166, E18 CAM_VS/GPIO_95, F18 CAM_WEN/CAM_SHUTTER/GPIO_167, F19 CAM_D3/GPIO_102, F21 CAM_D10/GPIO_109, G19 CAM_D2/GPIO_101, G20 CAM_D4/GPIO_103, G21 CAM_D11/GPIO_110, H24 CAM_FLD/CAM_GLOBAL_RESET/GPIO_98, J19 CAM_PCLK/GPIO_97, J20 CAM_STROBE/GPIO_126, J23 CAM_D8/GPIO_107, K20 IIC1_SCL, K21 IIC1_SDA, K23 CAM_D9/GPIO_108, K24 CAM_D7/GPIO_106, L23 MMC1_CMD/GPIO_121, L24 CAM_D6/GPIO_105, M4 SPI2_CS1/GPT8/USB2_TLL_D3/USB2_D3, M5 SPI2_CS0/GPT11/USB2_TLL_D6/USB2_D6, M20 MMC1_DATA1/GPIO_124, M21 MMC1_DATA1/GPIO_123, M22 MMC1_DATA0/GPIO_122, M23 MMC1_CLK/GPIO_120, N3 SPI2_SOMI/GPT10/USB2_TLL_D5/USB2_D5, N4 SPI2_SIMO/GPT9/USB2_TLL_D4/USB2_D4, N5 SPI2_CLK/USB2_TLL_D7/USB2_D7/GPIO_178, N20 MMC1_DATA6/GPIO_128, N21 MMC1_DATA5/GPIO_127, N22 MMC1_DATA4/GPIO_126, N23 MMC1_DATA3/GPIO_125, P23 HSUSB0_DIR/GPIO_122, P24 MMC1_DATA7/GPIO_129, R4 SPI1_SIMO/MMC2_DAT5/GPIO_172, R5 SPI1_CS3/USB2_TLL_D2/USB2_D2/MM2_TXDAT, R20 MCBSP2_DX/GPIO_119, R21 HSUSB0_CLK/GPIO_120, R22 HSUSB0_NXT/GPIO_124, R23 HSUSB0_STP/GPIO_121, T4 SPI1_SOMI/MMC2_DAT6/GPIO_173, T5 SPI1_CLK/MMC2_DAT4/GPIO_171, T6 SPI1_CS0/MMC2_DAT7/GPIO_174, T21 MCBSP2_CLKX/GPIO_117, T22 HSUSB0_DATA7/GPIO_191, T23 HSUSB0_DATA1/UART3_RX_IRRX/GPIO_130, T24 HSUSB0_DATA0/UART3_TX_IRTX/GPIO_125, U23 HSUSB0_DATA3/UART3_CTS_RCTX/GPIO_169, U24 HSUSB0_DATA2/UART3_RTS_SD/GPIO_131, V3 MMC2_DAT3/SP3_CS0/GPIO_135, V4 MCBSP3_FSX/UART2_RX/GPIO_143, V5 MCBSP3_DR/UART2_RTS/GPIO_141, V6 MCBSP3_DX/UART2_CTS/GPIO_140, V7 UART1_RX/MCBSP1_CLKR/SPI4_CLK/GPIO_151, V18 MCBSP1_CLKX/MCBSP3_CLKX/GPIO_162, V19 MCBSP2_DR/GPIO_118, V20 MCBSP2_FSX/GPIO_116, V23 HSUSB0_DATA5/GPIO_189, W3 MMC2_DAT2/SPI3-CS1/GPIO_134, W4 MCBSP3_CLKX/UART2_TX/GPIO_142, W6 UART1_RTS/GPIO_149, W7 UART1_TX/GPIO_148, W16 SYS_NIRQ/GPIO_0, W18 MCBSP1_DX/SPI4_SIMO/MCBSP3_DX/GPIO_158, W19 MCBSP1_CLKR/SPI4_CLK/GPIO/156, W23 HSUSB0_DATA6/GPIO_190, W24 HSUSB0_DATA4/GPIO_188, Y1 MMC2_CLK/SPI3_CLK/GPIO_130, Y2 MMC2_DAT6/MMC2_DIR_CMD/CAMSHUTTER, Y3 MMC2_DAT1/GPIO_133, Y7 SYS_CLKOUT1/GPIO_10, Y10 SYS_NRESWARM/GPIO_30, Y13 SYS_CLKREQ/GPIO_1, Y15 IIC4_SDA/SYS_NVMODE2, Y16 IIC4_SCL/SYS_NVMODE1, Y18 MCBSP1_DR/SPI4_SOMI/MCBSP3_DR/GPIO_159, Y23 TV_VFB2, Y24 TV_VREF
part C pins: AA12 VDDS_SRAM, AA13 VDDS_WKUP_BG, AB13 VDDA_DAC, AB15 VSSA_DAC, AD1 BG_TESTOU, B1 VPP, E16 VDDS_MEM, F10 W12 VDD_MPU_IVA, F12 VDD_CORE, F13 VDD_CORE, F15 VDDS_MEM, F16 VDDS_MEM, G9 W12 VDD_MPU_IVA, G10 W12 VDD_MPU_IVA, G12 VDD_CORE, G13 VDD_CORE, G15 VDDS_MEM, G16 VDDS_MEM, G18 VDDS_DPLL_DLL, H8 VDDS_MMC1A/VDDS, H9 W12 VDD_MPU_IVA, H10 W12 VDD_MPU_IVA, H11 VSS, H12 VDD_CORE, H13 VDD_CORE, H14 VSS, H15 VDDS_MEM, H16 VSS, H17 CAP_VDD_SRAM_CORE, J6 VDDS_MEM, J7 VDDS_MEM, J8 VDDS_MEM, J9 W12 VDD_MPU_IVA, J10 W12 VDD_MPU_IVA, J11 VSS, J12 VSS, J13 VSS, J14 VSS, J15 VSS, J16 VSS, J17 VDD_CORE, J18 VDD_CORE, K6 VDDS_MEM, K7 VDDS_MEM, K8 VDDS_MEM, K10 VSS, K11 VSS, K14 VSS, K15 VSS, K17 VDD_CORE, K18 VDD_CORE, K19 VDD_CORE, L8 VSS, L10 VSS, L11 W12 VDD_MPU_IVA, L12 W12 VDD_MPU_IVA, L13 VSS, L14 VDD_CORE, L15 VDD_CORE, L17 VSS, M6 W12 VDD_MPU_IVA, M7 W12 VDD_MPU_IVA, M8 W12 VDD_MPU_IVA, M9 VSS, M10 VSS, M11 VSS, M12 W12 VDD_MPU_IVA, M13 VSS, M14 VDD_CORE, M15 VDD_CORE, M16 VSS, M17 VDDS, M18 VDDS, M19 VDDS, N6 W12 VDD_MPU_IVA, N7 W12 VDD_MPU_IVA, N8 W12 VDD_MPU_IVA, N9 VSS, N10 VSS, N11 VSS, N12 VSS, N13 VSS, N14 VSS, N15 VSS, N16 VSS, N17 VDDS, N18 VDDS, N19 VDDS, N24 VDDS_MMC1, P8 VSS, P10 VSS, P11 VSS, P12 VSS, P13 VSS, P14 VSS, P15 VSS, P17 VSS, R6 W12 VDD_MPU_IVA, R7 W12 VDD_MPU_IVA, R8 W12 VDD_MPU_IVA, R10 VSS, R11 VSS, R14 VSS, R15 VSS, R17 VDD_CORE, R18 VDD_CORE, R19 VDD_CORE, T7 W12 VDD_MPU_IVA, T8 W12 VDD_MPU_IVA, T9 VSS, T10 VSS, T11 VSS, T12 VSS, T13 VSS, T14 VSS, T15 VSS, T16 VSS, T17 VDD_CORE, T18 VDD_CORE, T19 VDD_CORE, T20 VDD_CORE, U8 CAP_VDD_SRAM_MPU_IVA, U9 VSS, U10 VDDS, U11 VSS, U12 W12 VDD_MPU_IVA, U13 W12 VDD_MPU_IVA, U14 VSS, U15 VSS, U16 VSS, U17 VDDS_DPLL_PER, V9 VDDS, V10 VDDS, V12 W12 VDD_MPU_IVA, V13 W12 VDD_MPU_IVA, V15 VSS, V16 VSS, W9 VDDS, W10 VDDS, W12 W12 VDD_MPU_IVA, W13 W12 VDD_MPU_IVA, W15 VSS, Y9 VDDS, Y12 CAP_VDD_WKUP
part A text: DDR; GPMC; DSS
part B text: TV; MCBSP3/UART2; MMC2; SYSTEM; CAMERA; SPI; MCSP1; ETK/HSUSB1; MMC1; UART1; UART3; HSUSB0; JTAG; IIC; MCSP2

## OPA237
designator U?
pins: 1 OUT, 2 GND, 3 +, 4 -, 5 VCC

## OSC6P
designator X?
pins: 1 E/D (io), 2 NC (io), 3 GND (io), 4 HF1 (io), 5 HF2 (io), 6 VC (io)
text: G

## OSC-EN
designator Y?
OSC 22.5792MHZ FIXED 1.8V SMT; CAD_APPROVED: Yes; MFG_PN01: O-22.5792M-JO22-G-1.8-1LF; MFG_NAME01: JAUCH QUARTZ GMBH; AGILE_PN: 230-77053; HEIGHT: 0.9MM; ROHS: Yes
footprint OSCSMT(3225)
pins: 1 EN/~{DIS} (in), 2 DGND (power), 3 OUT (out), 4 VCC (power)
text: OSC.

## PC817
designator U?
pins: 1, 2, 3, 4

## PC827
designator U?
pins: 1, 2, 3, 4, 5, 6, 7, 8

## PDS1040
designator D?
pins: 1 A, 2 B, 3 C

## PI6C2405A
designator U?
pins: 1 REF (in), 2 CLK2 (out), 3 CLK1 (out), 4 GND (io), 5 CLK3 (out), 6 VDD (io), 7 CLK4 (out), 8 CLKOUT (out)

## PM45-1040
designator *
Right: 100; Bottom: 90
pins: 1 TXD+, 2 NC, 3 TXD-, 4 AVDD, 5 RXD+, 6 NC, 7 RXD-, 8 NC, 9 NC, 10 RX-, 11 NC, 12 RX+, 13 FILT, 14 TX-, 15 NC, 16 TX+

## PNP
designator Q11, comment 8550/3906
PNP Transistor
footprint SOT-23
pins: 1 B, 2 E, 3 C
2 alternate drawings of the same symbol

## PT1301
designator U?
pins: 1 CE, 2 EXT, 3 GND, 4 LX, 5 VDD, 6 FB

## RA
designator RA?
pins: 1, 2, 3, 4, 5, 6, 7, 8

## RAA
designator RA?
footprint R-AR4
part A pins: 1, 8
part B pins: 2, 7
part C pins: 3, 6
part D pins: 4, 5

## Relay-SPDT
designator K?
Single-Pole Dual-Throw Relay; Published: 24-Mar-1999; LatestRevisionDate: 17-Jul-2002; LatestRevisionNote: Re-released for DXP Platform.; PackageReference: MODULE5B; Publisher: Altium Limited
footprint MODULE5B (DIP; 5 Round Pins; Row Space 15.24 mm; Pitch 2.54 mm)
simulation model SPDTRELAY (Spice Subcircuit)
pins: 1, 2, 3, 4, 5

## RF_Test
designator *
pins: 1 Signal (in) "Signal Pin", 2 GND (power), 3 GND (power), 4 GND (power), 5 GND (power)

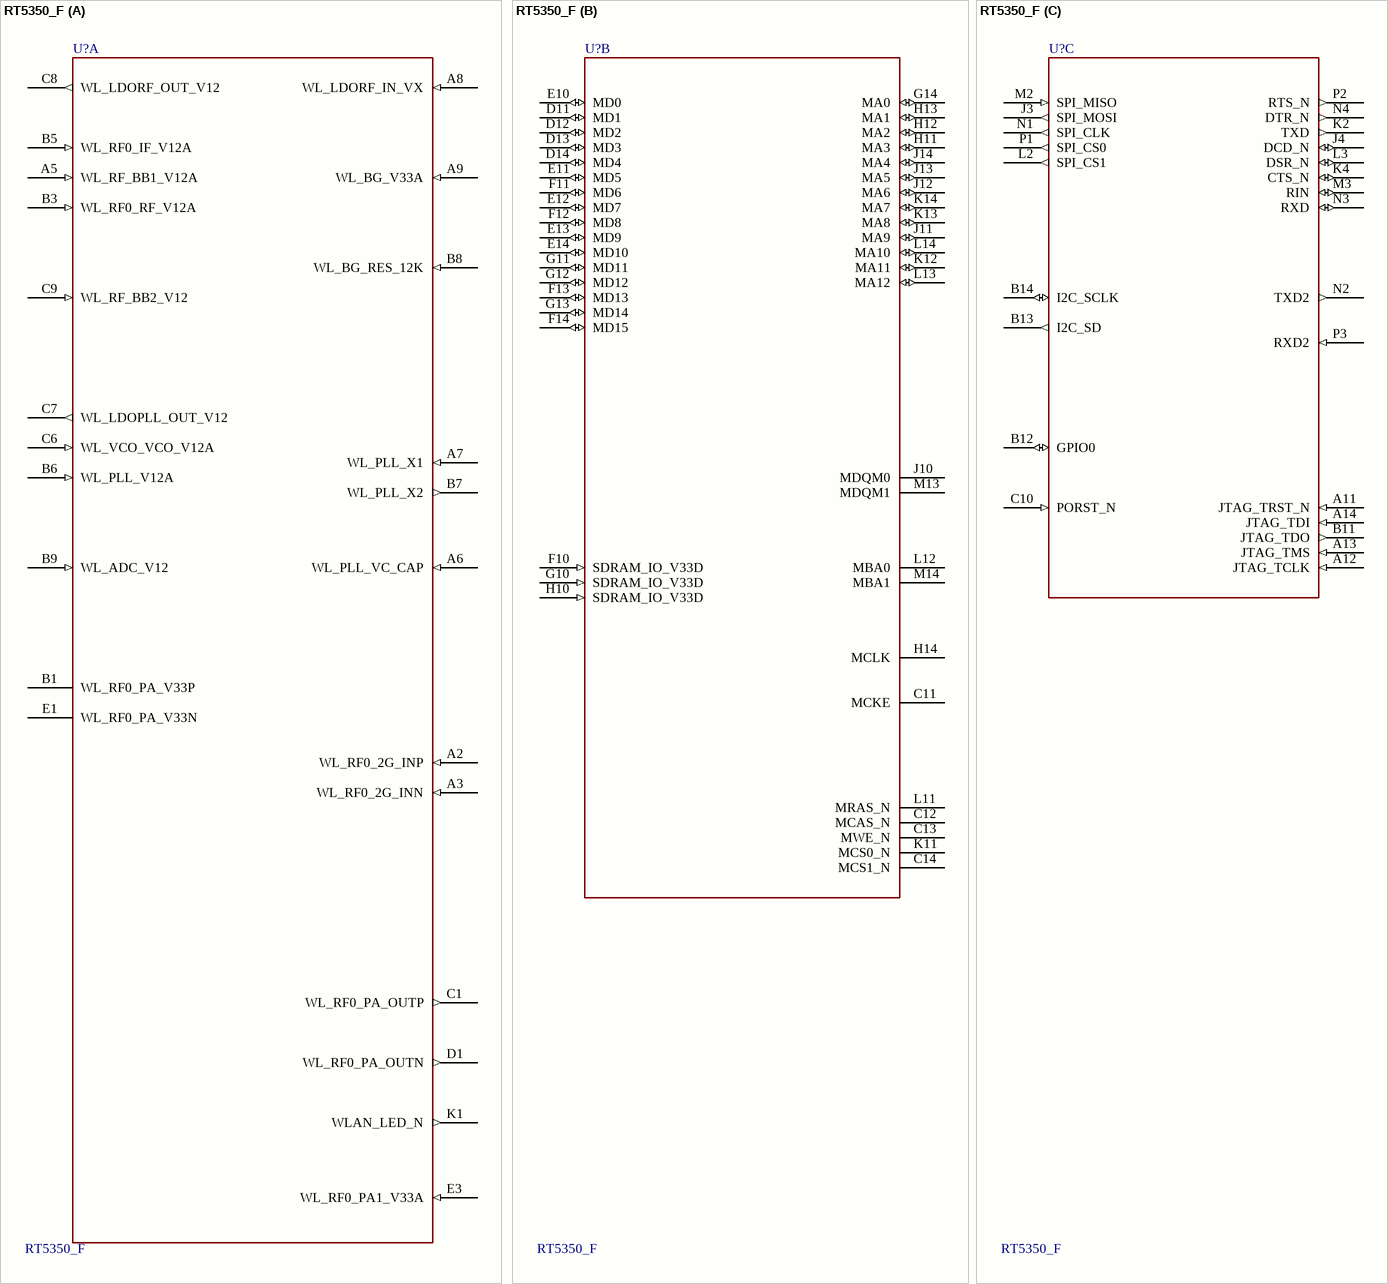
[diagram p28: symbol RT5350_F]

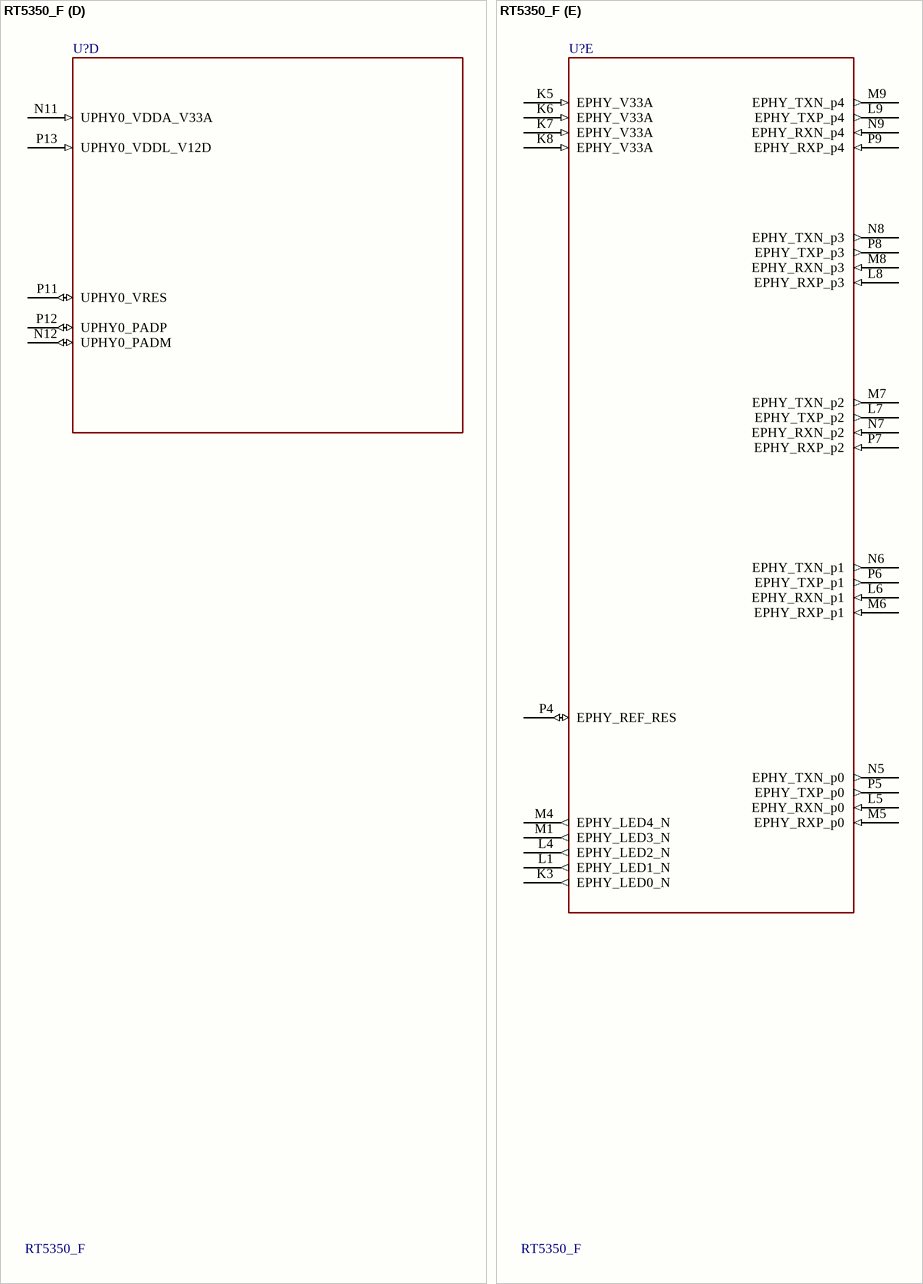
[diagram p29: symbol RT5350_F]

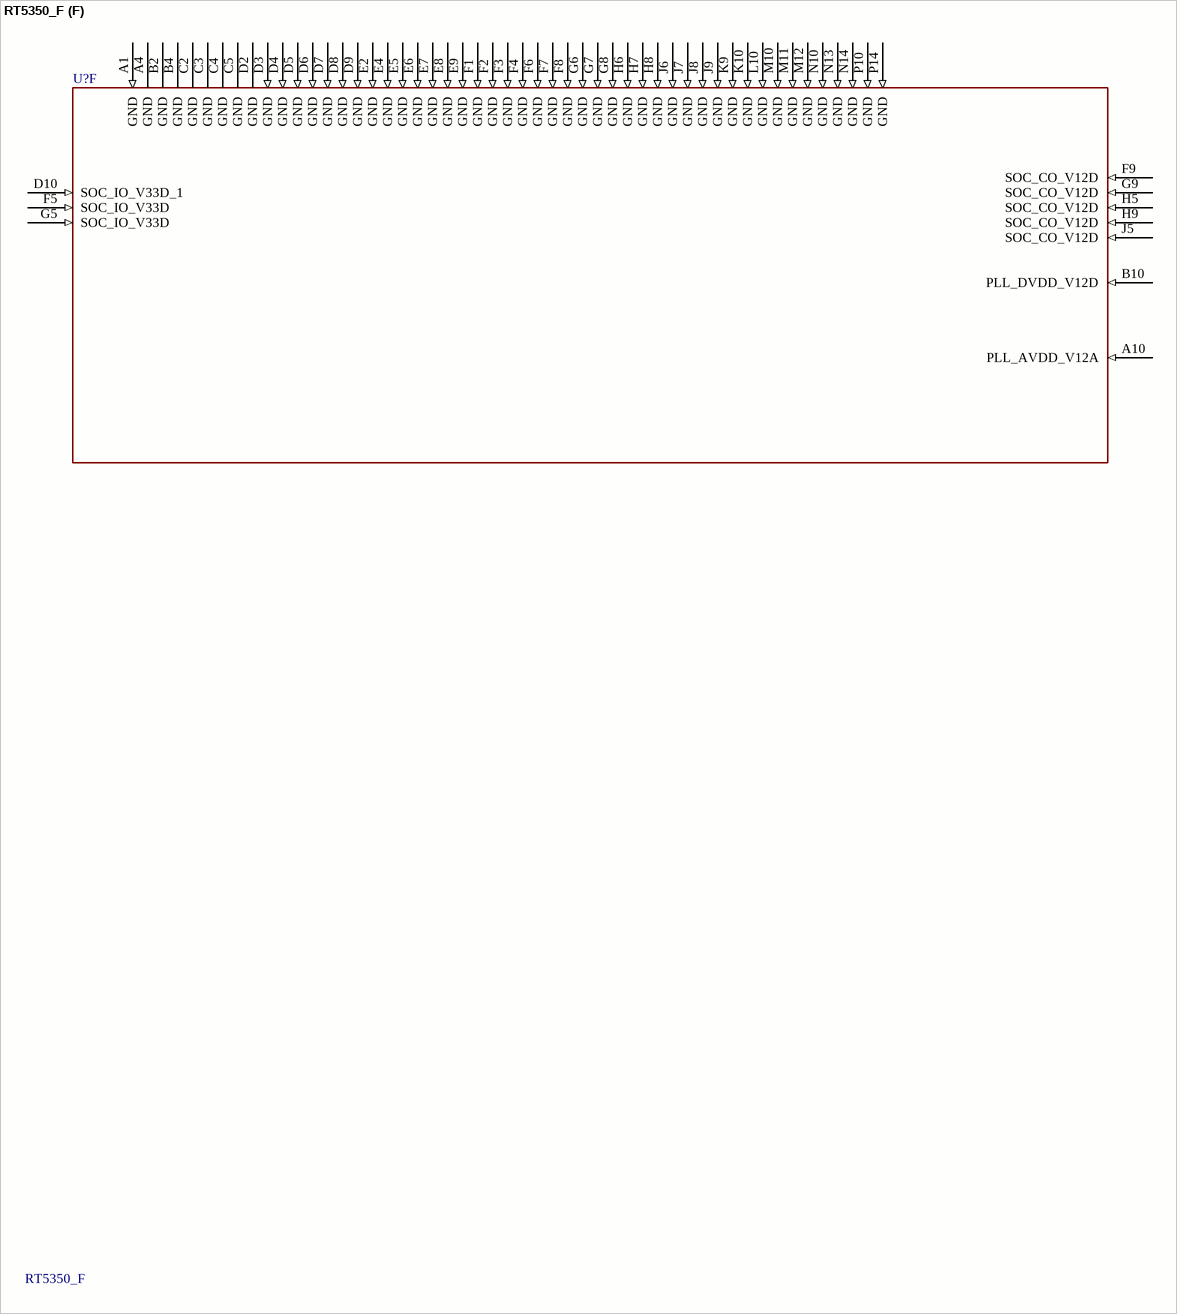
[diagram p30: symbol RT5350_F]

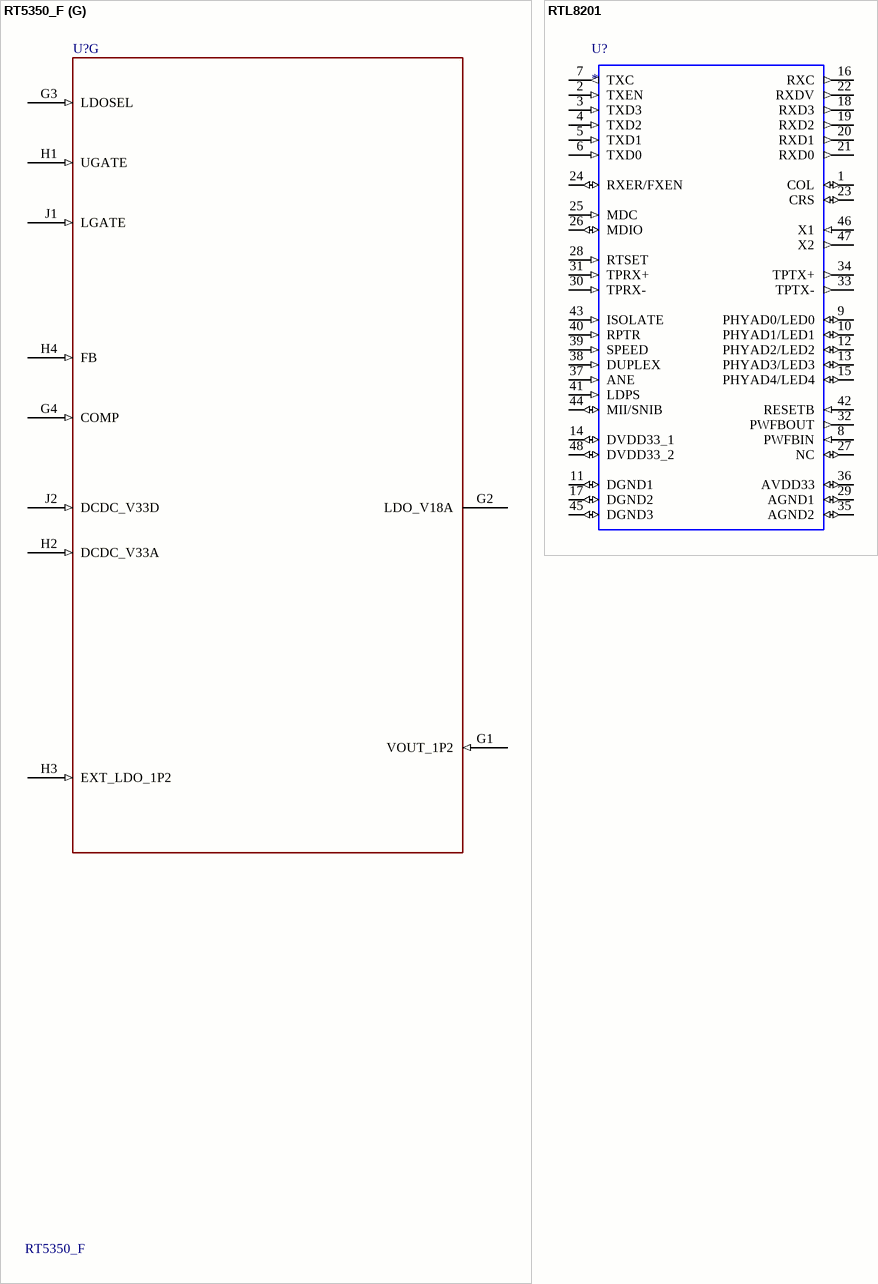
[diagram p31: symbols RT5350_F to RTL8201]

## RT5350_F
designator U?, comment value RT5350_F  (hidden comment: Wifi RF SOC)
footprint BGA196-0.8MM-SCT
part A pins: A2 WL_RF0_2G_INP (in), A3 WL_RF0_2G_INN (in), A5 WL_RF_BB1_V12A (in), A6 WL_PLL_VC_CAP (in), A7 WL_PLL_X1 (in), A8 WL_LDORF_IN_VX (in), A9 WL_BG_V33A (in), B1 WL_RF0_PA_V33P, B3 WL_RF0_RF_V12A (in), B5 WL_RF0_IF_V12A (in), B6 WL_PLL_V12A (in), B7 WL_PLL_X2 (out), B8 WL_BG_RES_12K (in), B9 WL_ADC_V12 (in), C1 WL_RF0_PA_OUTP (out), C6 WL_VCO_VCO_V12A (in), C7 WL_LDOPLL_OUT_V12 (out), C8 WL_LDORF_OUT_V12 (out), C9 WL_RF_BB2_V12 (in), D1 WL_RF0_PA_OUTN (out), E1 WL_RF0_PA_V33N, E3 WL_RF0_PA1_V33A (in), K1 WLAN_LED_N (out)
part B pins: C11 MCKE, C12 MCAS_N, C13 MWE_N, C14 MCS1_N, D11 MD1 (io), D12 MD2 (io), D13 MD3 (io), D14 MD4 (io), E10 MD0 (io), E11 MD5 (io), E12 MD7 (io), E13 MD9 (io), E14 MD10 (io), F10 SDRAM_IO_V33D (in), F11 MD6 (io), F12 MD8 (io), F13 MD13 (io), F14 MD15 (io), G10 SDRAM_IO_V33D (in), G11 MD11 (io), G12 MD12 (io), G13 MD14 (io), G14 MA0 (io), H10 SDRAM_IO_V33D (in), H11 MA3 (io), H12 MA2 (io), H13 MA1 (io), H14 MCLK, J10 MDQM0, J11 MA9 (io), J12 MA6 (io), J13 MA5 (io), J14 MA4 (io), K11 MCS0_N, K12 MA11 (io), K13 MA8 (io), K14 MA7 (io), L11 MRAS_N, L12 MBA0, L13 MA12 (io), L14 MA10 (io), M13 MDQM1, M14 MBA1
part C pins: A11 JTAG_TRST_N (in), A12 JTAG_TCLK (in), A13 JTAG_TMS (in), A14 JTAG_TDI (in), B11 JTAG_TDO (out), B12 GPIO0 (io), B13 I2C_SD (out), B14 I2C_SCLK (io), C10 PORST_N (in), J3 SPI_MOSI (out), J4 DCD_N (io), K2 TXD (out), K4 CTS_N (io), L2 SPI_CS1 (out), L3 DSR_N (io), M2 SPI_MISO (in), M3 RIN (io), N1 SPI_CLK (out), N2 TXD2 (out), N3 RXD (io), N4 DTR_N (out), P1 SPI_CS0 (out), P2 RTS_N (out), P3 RXD2 (in)
part D pins: N11 UPHY0_VDDA_V33A (in), N12 UPHY0_PADM (io), P11 UPHY0_VRES (io), P12 UPHY0_PADP (io), P13 UPHY0_VDDL_V12D (in)
part E pins: K3 EPHY_LED0_N (out), K5 EPHY_V33A (in), K6 EPHY_V33A (in), K7 EPHY_V33A (in), K8 EPHY_V33A (in), L1 EPHY_LED1_N (out), L4 EPHY_LED2_N (out), L5 EPHY_RXN_p0 (in), L6 EPHY_RXN_p1 (in), L7 EPHY_TXP_p2 (out), L8 EPHY_RXP_p3 (in), L9 EPHY_TXP_p4 (out), M1 EPHY_LED3_N (out), M4 EPHY_LED4_N (out), M5 EPHY_RXP_p0 (in), M6 EPHY_RXP_p1 (in), M7 EPHY_TXN_p2 (out), M8 EPHY_RXN_p3 (in), M9 EPHY_TXN_p4 (out), N5 EPHY_TXN_p0 (out), N6 EPHY_TXN_p1 (out), N7 EPHY_RXN_p2 (in), N8 EPHY_TXN_p3 (out), N9 EPHY_RXN_p4 (in), P4 EPHY_REF_RES (io), P5 EPHY_TXP_p0 (out), P6 EPHY_TXP_p1 (out), P7 EPHY_RXP_p2 (in), P8 EPHY_TXP_p3 (out), P9 EPHY_RXP_p4 (in)
part F pins: A1 GND (in), A4 GND, A10 PLL_AVDD_V12A (in), B2 GND, B4 GND, B10 PLL_DVDD_V12D (in), C2 GND, C3 GND, C4 GND, C5 GND, D2 GND, D3 GND (in), D4 GND (in), D5 GND (in), D6 GND (in), D7 GND (in), D8 GND (in), D9 GND (in), D10 SOC_IO_V33D_1 (in), E2 GND (in), E4 GND (in), E5 GND (in), E6 GND (in), E7 GND (in), E8 GND (in), E9 GND (in), F1 GND (in), F2 GND (in), F3 GND (in), F4 GND (in), F5 SOC_IO_V33D (in), F6 GND (in), F7 GND (in), F8 GND (in), F9 SOC_CO_V12D (in), G5 SOC_IO_V33D (in), G6 GND (in), G7 GND (in), G8 GND (in), G9 SOC_CO_V12D (in), H5 SOC_CO_V12D (in), H6 GND (in), H7 GND (in), H8 GND (in), H9 SOC_CO_V12D (in), J5 SOC_CO_V12D (in), J6 GND (in), J7 GND (in), J8 GND (in), J9 GND (in), K9 GND (in), K10 GND (in), L10 GND (in), M10 GND (in), M11 GND (in), M12 GND (in), N10 GND (in), N13 GND (in), N14 GND (in), P10 GND (in), P14 GND (in)
part G pins: G1 VOUT_1P2 (in), G2 LDO_V18A, G3 LDOSEL (in), G4 COMP (in), H1 UGATE (in), H2 DCDC_V33A (in), H3 EXT_LDO_1P2 (in), H4 FB (in), J1 LGATE (in), J2 DCDC_V33D (in)

## RTL8201
designator U?
pins: 1 COL (io), 2 TXEN (in), 3 TXD3 (in), 4 TXD2 (in), 5 TXD1 (in), 6 TXD0 (in), 7 TXC (out), 8 PWFBIN (in), 9 PHYAD0/LED0 (io), 10 PHYAD1/LED1 (io), 11 DGND1 (io), 12 PHYAD2/LED2 (io), 13 PHYAD3/LED3 (io), 14 DVDD33_1 (io), 15 PHYAD4/LED4 (io), 16 RXC (out), 17 DGND2 (io), 18 RXD3 (out), 19 RXD2 (out), 20 RXD1 (out), 21 RXD0 (out), 22 RXDV (out), 23 CRS (io), 24 RXER/FXEN (io), 25 MDC (in), 26 MDIO (io), 27 NC (io), 28 RTSET (in), 29 AGND1 (io), 30 TPRX- (in), 31 TPRX+ (in), 32 PWFBOUT (out), 33 TPTX- (out), 34 TPTX+ (out), 35 AGND2 (io), 36 AVDD33 (io), 37 ANE (in), 38 DUPLEX (in), 39 SPEED (in), 40 RPTR (in), 41 LDPS (in), 42 RESETB (in), 43 ISOLATE (in), 44 MII/SNIB (io), 45 DGND3 (io), 46 X1 (in), 47 X2 (out), 48 DVDD33_2 (io)

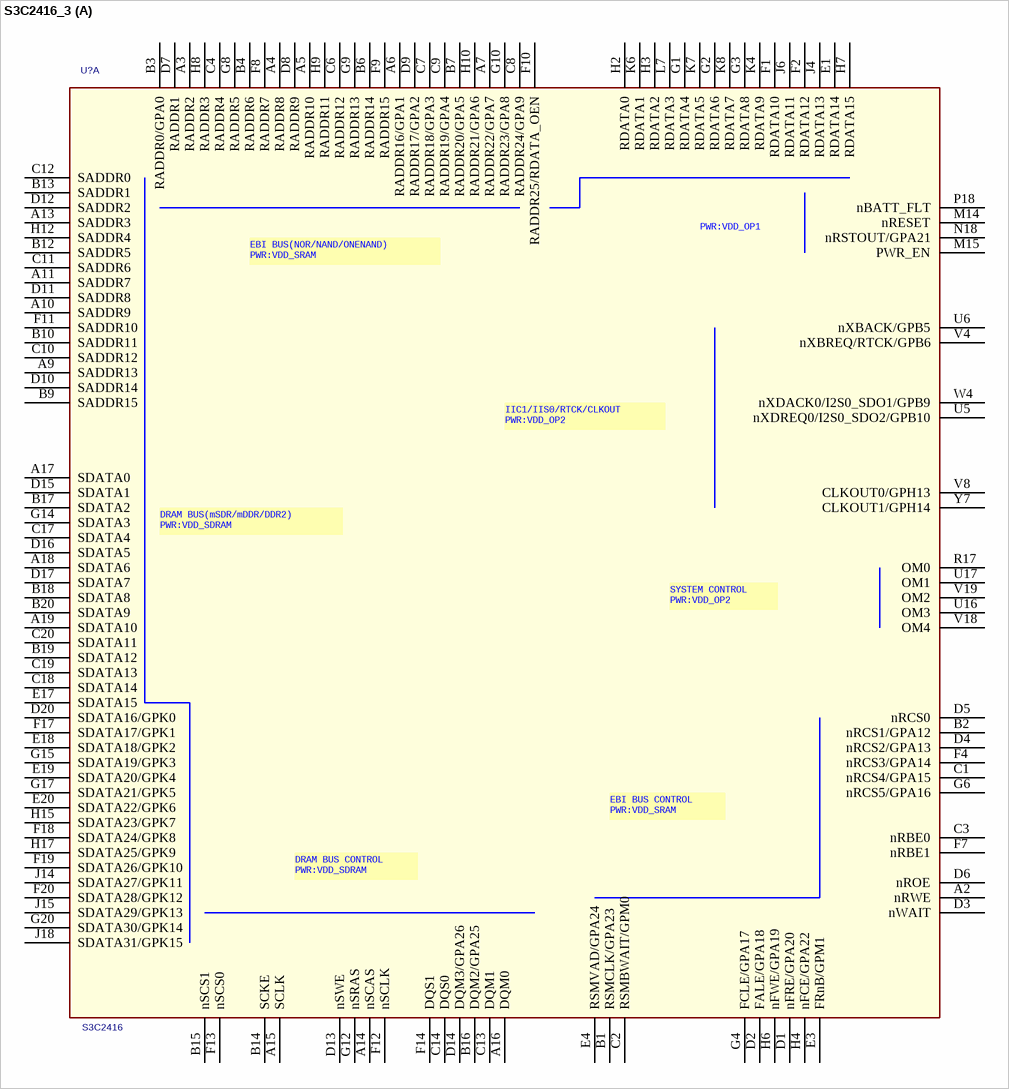
[diagram p32: symbol S3C2416_3]

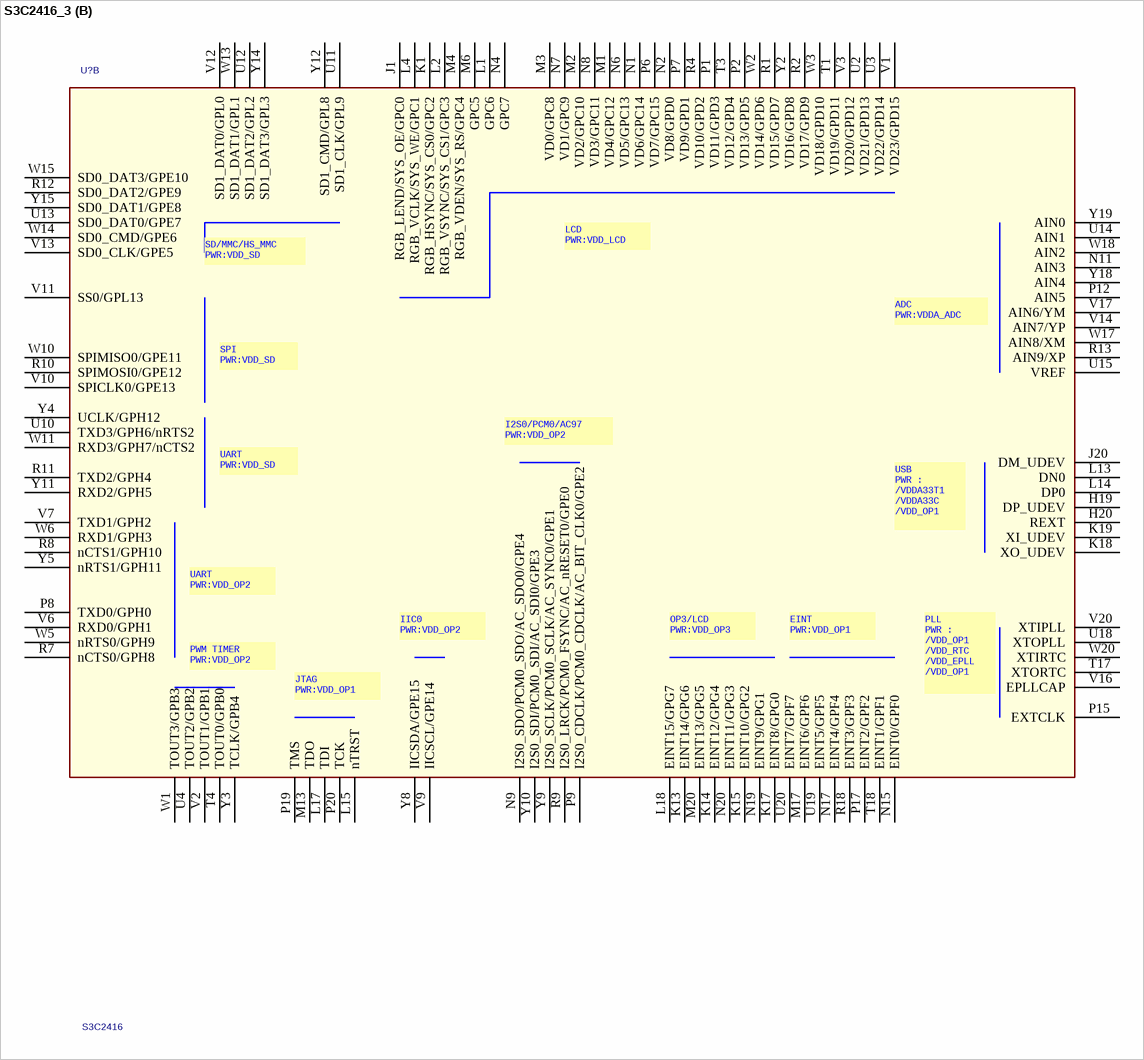
[diagram p33: symbol S3C2416_3]

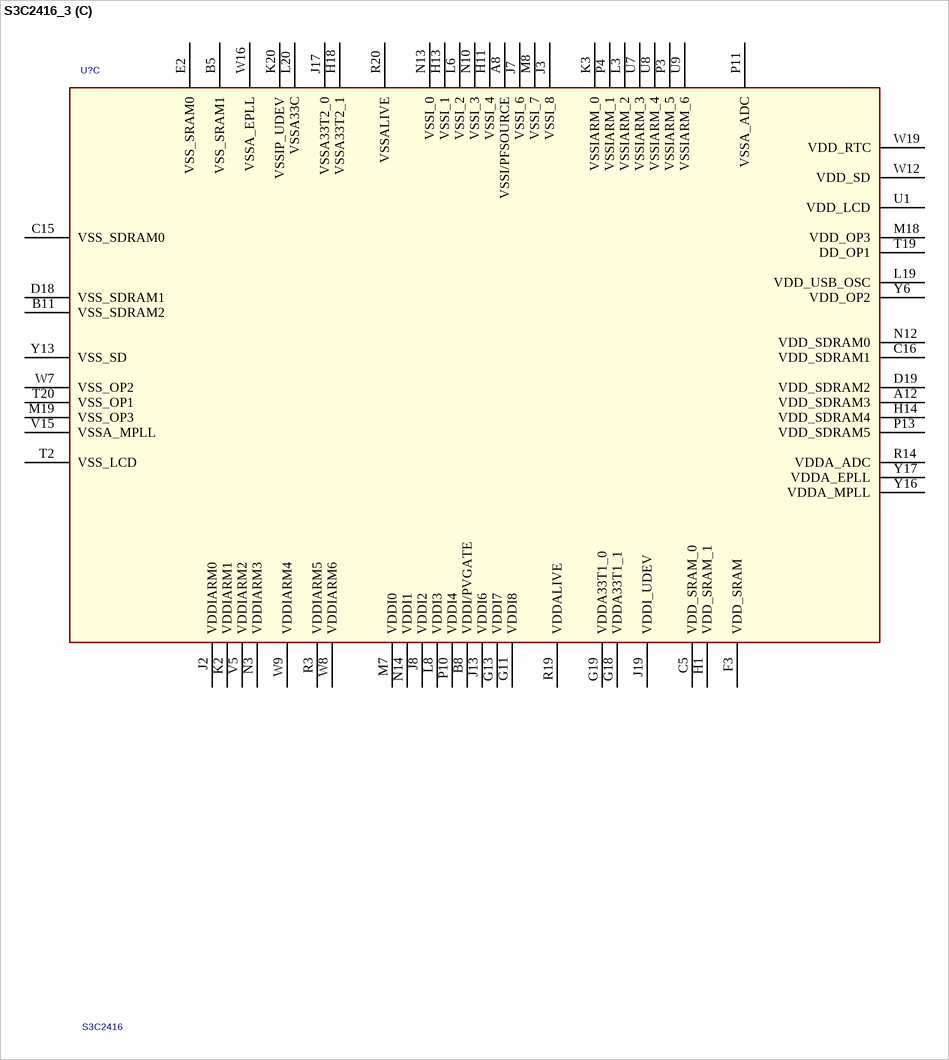
[diagram p34: symbol S3C2416_3]

## S3C2416_3
designator U?, comment S3C2416
footprint S3C2416 (BGA, 330-Leads, Body 14.0x14.0mm,  Pitch 0.65mm)
part A pins: A2 nRWE, A3 RADDR2, A4 RADDR8, A5 RADDR10, A6 RADDR16/GPA1, A7 RADDR22/GPA7, A9 SADDR13, A10 SADDR9, A11 SADDR7, A13 SADDR3, A14 nSCAS, A15 SCLK, A16 DQM0, A17 SDATA0, A18 SDATA6, A19 SDATA10, B1 RSMCLK/GPA23, B2 nRCS1/GPA12, B3 RADDR0/GPA0, B4 RADDR6, B6 RADDR14, B7 RADDR20/GPA5, B9 SADDR15, B10 SADDR11, B12 SADDR5, B13 SADDR1, B14 SCKE, B15 nSCS1, B16 DQM2/GPA25, B17 SDATA2, B18 SDATA8, B19 SDATA12, B20 SDATA9, C1 nRCS4/GPA15, C2 RSMBWAIT/GPM0, C3 nRBE0, C4 RADDR4, C6 RADDR12, C7 RADDR18/GPA3, C8 RADDR24/GPA9, C9 RADDR19/GPA4, C10 SADDR12, C11 SADDR6, C12 SADDR0, C13 DQM1, C14 DQS0, C17 SDATA4, C18 SDATA14, C19 SDATA13, C20 SDATA11, D1 nFRE/GPA20, D2 FALE/GPA18, D3 nWAIT, D4 nRCS2/GPA13, D5 nRCS0, D6 nROE, D7 RADDR1, D8 RADDR9, D9 RADDR17/GPA2, D10 SADDR14, D11 SADDR8, D12 SADDR2, D13 nSWE, D14 DQM3/GPA26, D15 SDATA1, D16 SDATA5, D17 SDATA7, D20 SDATA16/GPK0, E1 RDATA14, E3 FRnB/GPM1, E4 RSMVAD/GPA24, E17 SDATA15, E18 SDATA18/GPK2, E19 SDATA20/GPK4, E20 SDATA22/GPK6, F1 RDATA10, F2 RDATA12, F4 nRCS3/GPA14, F7 nRBE1, F8 RADDR7, F9 RADDR15, F10 RADDR25/RDATA_OEN, F11 SADDR10, F12 nSCLK, F13 nSCS0, F14 DQS1, F17 SDATA17/GPK1, F18 SDATA24/GPK8, F19 SDATA26/GPK10, F20 SDATA28/GPK12, G1 RDATA4, G2 RDATA6, G3 RDATA8, G4 FCLE/GPA17, G6 nRCS5/GPA16, G8 RADDR5, G9 RADDR13, G10 RADDR23/GPA8, G12 nSRAS, G14 SDATA3, G15 SDATA19/GPK3, G17 SDATA21/GPK5, G20 SDATA30/GPK14, H2 RDATA0, H3 RDATA2, H4 nFCE/GPA22, H6 nFWE/GPA19, H7 RDATA15, H8 RADDR3, H9 RADDR11, H10 RADDR21/GPA6, H12 SADDR4, H15 SDATA23/GPK7, H17 SDATA25/GPK9, J4 RDATA13, J6 RDATA11, J14 SDATA27/GPK11, J15 SDATA29/GPK13, J18 SDATA31/GPK15, K4 RDATA9, K6 RDATA1, K7 RDATA5, K8 RDATA7, L7 RDATA3, M14 nRESET, M15 PWR_EN, N18 nRSTOUT/GPA21, P18 nBATT_FLT, R17 OM0, U5 nXDREQ0/I2S0_SDO2/GPB10, U6 nXBACK/GPB5, U16 OM3, U17 OM1, V4 nXBREQ/RTCK/GPB6, V8 CLKOUT0/GPH13, V18 OM4, V19 OM2, W4 nXDACK0/I2S0_SDO1/GPB9, Y7 CLKOUT1/GPH14
part B pins: H19 DP_UDEV, H20 REXT, J1 RGB_LEND/SYS_OE/GPC0, J20 DM_UDEV, K1 RGB_HSYNC/SYS_CS0/GPC2, K13 EINT14/GPG6, K14 EINT12/GPG4, K15 EINT10/GPG2, K17 EINT8/GPG0, K18 XO_UDEV, K19 XI_UDEV, L1 GPC6, L2 RGB_VSYNC/SYS_CS1/GPC3, L4 RGB_VCLK/SYS_WE/GPC1, L13 DN0, L14 DP0, L15 nTRST, L17 TDI, L18 EINT15/GPG7, M1 VD4/GPC12, M2 VD2/GPC10, M3 VD0/GPC8, M4 RGB_VDEN/SYS_RS/GPC4, M6 GPC5, M13 TDO, M17 EINT6/GPF6, M20 EINT13/GPG5, N1 VD6/GPC14, N2 VD8/GPD0, N4 GPC7, N6 VD5/GPC13, N7 VD1/GPC9, N8 VD3/GPC11, N9 I2S0_SDO/PCM0_SDO/AC_SDO0/GPE4, N11 AIN3, N15 EINT0/GPF0, N17 EINT4/GPF4, N19 EINT9/GPG1, N20 EINT11/GPG3, P1 VD11/GPD3, P2 VD13/GPD5, P6 VD7/GPC15, P7 VD9/GPD1, P8 TXD0/GPH0, P9 I2S0_CDCLK/PCM0_CDCLK/AC_BIT_CLK0/GPE2, P12 AIN5, P15 EXTCLK, P17 EINT2/GPF2, P19 TMS, P20 TCK, R1 VD15/GPD7, R2 VD17/GPD9, R4 VD10/GPD2, R7 nCTS0/GPH8, R8 nCTS1/GPH10, R9 I2S0_LRCK/PCM0_FSYNC/AC_nRESET0/GPE0, R10 SPIMOSI0/GPE12, R11 TXD2/GPH4, R12 SD0_DAT2/GPE9, R13 AIN9/XP, R18 EINT3/GPF3, T1 VD19/GPD11, T3 VD12/GPD4, T4 TOUT0/GPB0, T17 XTORTC, T18 EINT1/GPF1, U2 VD21/GPD13, U3 VD22/GPD14, U4 TOUT2/GPB2, U10 TXD3/GPH6/nRTS2, U11 SD1_CLK/GPL9, U12 SD1_DAT2/GPL2, U13 SD0_DAT0/GPE7, U14 AIN1, U15 VREF, U18 XTOPLL, U19 EINT5/GPF5, U20 EINT7/GPF7, V1 VD23/GPD15, V2 TOUT1/GPB1, V3 VD20/GPD12, V6 RXD0/GPH1, V7 TXD1/GPH2, V9 IICSCL/GPE14, V10 SPICLK0/GPE13, V11 SS0/GPL13, V12 SD1_DAT0/GPL0, V13 SD0_CLK/GPE5, V14 AIN7/YP, V16 EPLLCAP, V17 AIN6/YM, V20 XTIPLL, W1 TOUT3/GPB3, W2 VD14/GPD6, W3 VD18/GPD10, W5 nRTS0/GPH9, W6 RXD1/GPH3, W10 SPIMISO0/GPE11, W11 RXD3/GPH7/nCTS2, W13 SD1_DAT1/GPL1, W14 SD0_CMD/GPE6, W15 SD0_DAT3/GPE10, W17 AIN8/XM, W18 AIN2, W20 XTIRTC, Y2 VD16/GPD8, Y3 TCLK/GPB4, Y4 UCLK/GPH12, Y5 nRTS1/GPH11, Y8 IICSDA/GPE15, Y9 I2S0_SCLK/PCM0_SCLK/AC_SYNC0/GPE1, Y10 I2S0_SDI/PCM0_SDI/AC_SDI0/GPE3, Y11 RXD2/GPH5, Y12 SD1_CMD/GPL8, Y14 SD1_DAT3/GPL3, Y15 SD0_DAT1/GPE8, Y18 AIN4, Y19 AIN0
part C pins: A8 VSSI/PFSOURCE, A12 VDD_SDRAM3, B5 VSS_SRAM1, B8 VDDI/PVGATE, B11 VSS_SDRAM2, C5 VDD_SRAM_0, C15 VSS_SDRAM0, C16 VDD_SDRAM1, D18 VSS_SDRAM1, D19 VDD_SDRAM2, E2 VSS_SRAM0, F3 VDD_SRAM, G11 VDDI8, G13 VDDI7, G18 VDDA33T1_1, G19 VDDA33T1_0, H1 VDD_SRAM_1, H11 VSSI_4, H13 VSSI_1, H14 VDD_SDRAM4, H18 VSSA33T2_1, J2 VDDIARM0, J3 VSSI_8, J7 VSSI_6, J8 VDDI2, J13 VDDI6, J17 VSSA33T2_0, J19 VDDI_UDEV, K2 VDDIARM1, K3 VSSIARM_0, K20 VSSIP_UDEV, L3 VSSIARM_2, L6 VSSI_2, L8 VDDI3, L19 VDD_USB_OSC, L20 VSSA33C, M7 VDDI0, M8 VSSI_7, M18 VDD_OP3, M19 VSS_OP3, N3 VDDIARM3, N10 VSSI_3, N12 VDD_SDRAM0, N13 VSSI_0, N14 VDDI1, P3 VSSIARM_5, P4 VSSIARM_1, P10 VDDI4, P11 VSSA_ADC, P13 VDD_SDRAM5, R3 VDDIARM5, R14 VDDA_ADC, R19 VDDALIVE, R20 VSSALIVE, T2 VSS_LCD, T19 DD_OP1, T20 VSS_OP1, U1 VDD_LCD, U7 VSSIARM_3, U8 VSSIARM_4, U9 VSSIARM_6, V5 VDDIARM2, V15 VSSA_MPLL, W7 VSS_OP2, W8 VDDIARM6, W9 VDDIARM4, W12 VDD_SD, W16 VSSA_EPLL, W19 VDD_RTC, Y6 VDD_OP2, Y13 VSS_SD, Y16 VDDA_MPLL, Y17 VDDA_EPLL
part A text: PWR:VDD_OP1; EBI BUS(NOR/NAND/ONENAND) / PWR:VDD_SRAM; IIC1/IIS0/RTCK/CLKOUT / PWR:VDD_OP2; DRAM BUS(mSDR/mDDR/DDR2) / PWR:VDD_SDRAM; SYSTEM CONTROL / PWR:VDD_OP2; EBI BUS CONTROL / PWR:VDD_SRAM; DRAM BUS CONTROL / PWR:VDD_SDRAM
part B text: LCD / PWR:VDD_LCD; SD/MMC/HS_MMC / PWR:VDD_SD; ADC / PWR:VDDA_ADC; SPI / PWR:VDD_SD; I2S0/PCM0/AC97 / PWR:VDD_OP2; UART / PWR:VDD_SD; USB / PWR : / /VDDA33T1 / /VDDA33C / /VDD_OP1; UART / PWR:VDD_OP2; IIC0 / PWR:VDD_OP2; OP3/LCD / PWR:VDD_OP3; EINT / PWR:VDD_OP1; PWM TIMER / PWR:VDD_OP2; PLL / PWR : / /VDD_OP1 / /VDD_RTC / /VDD_EPLL / /VDD_OP1; JTAG / PWR:VDD_OP1

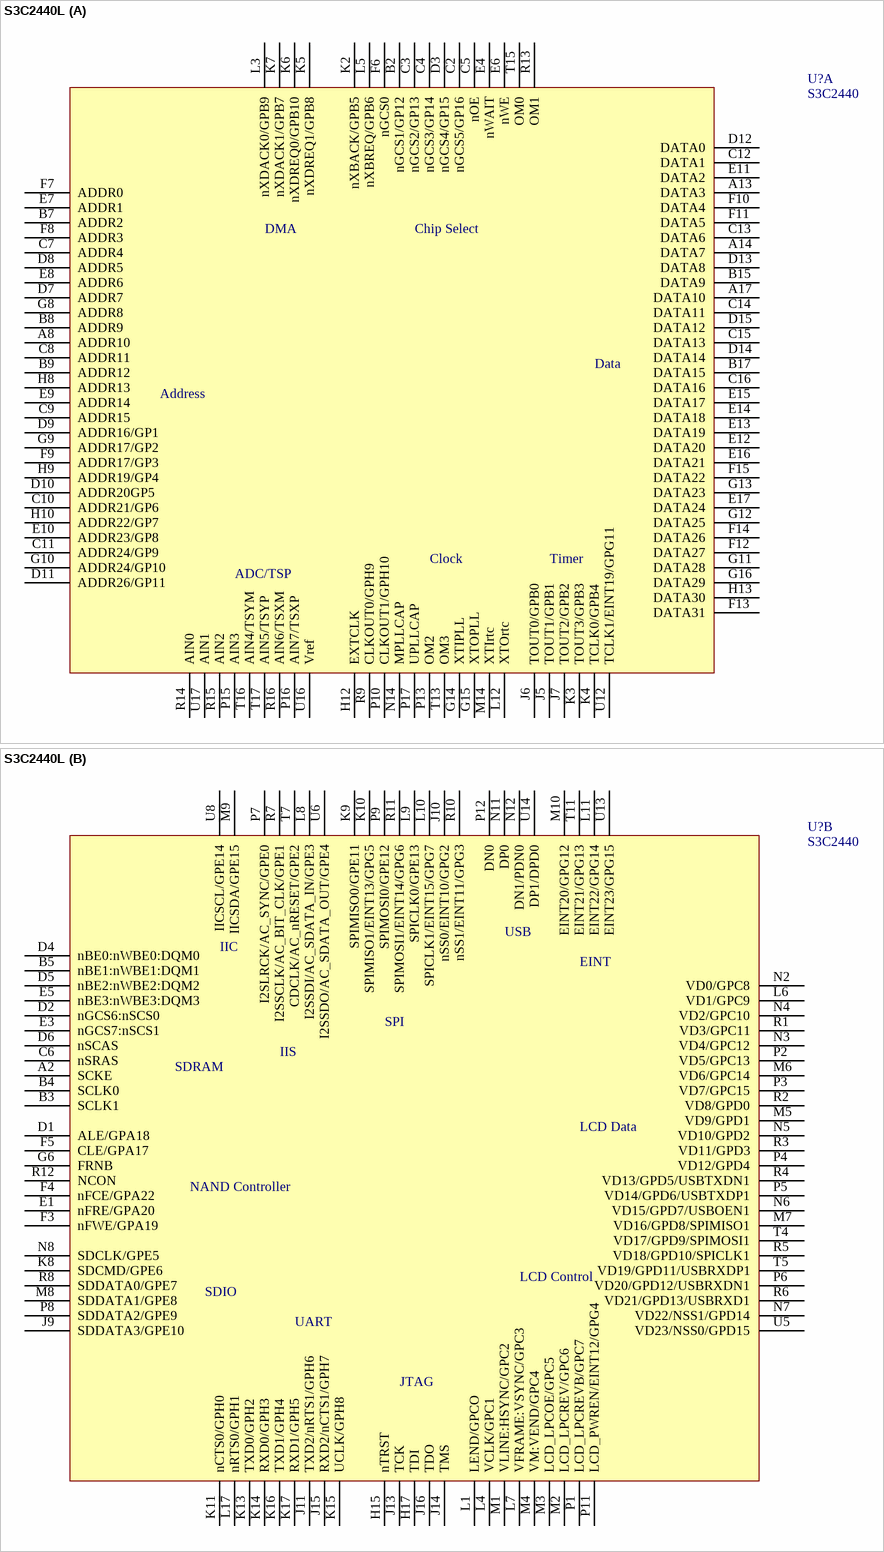
[diagram p35: symbol S3C2440L]

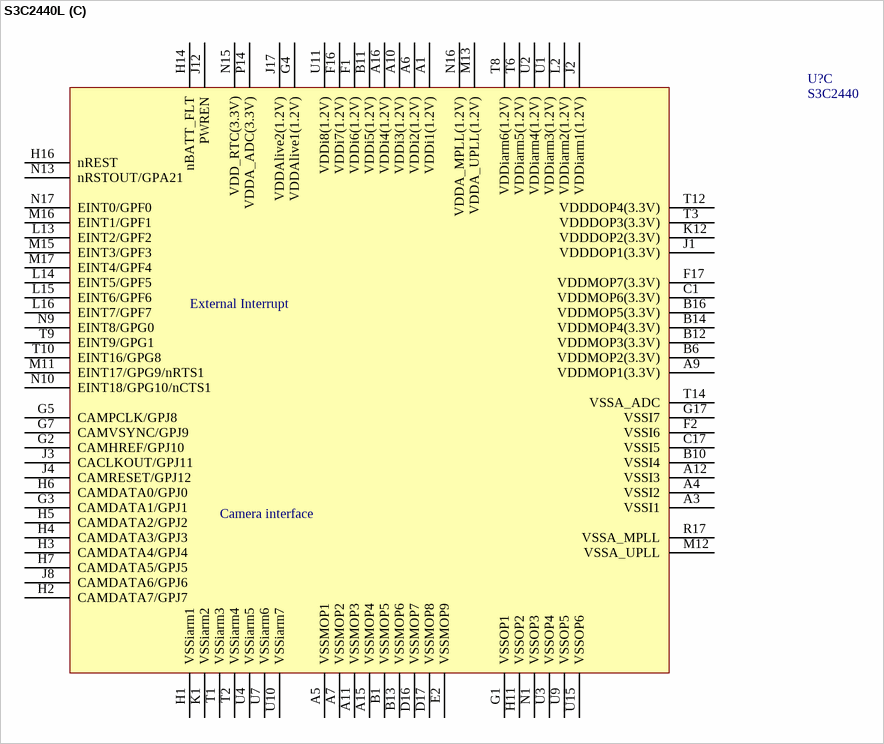
[diagram p36: symbol S3C2440L]

## S3C2440L
designator U?, comment S3C2440
part A pins: A8 ADDR10, A13 DATA3, A14 DATA7, A17 DATA10, B2 nGCS1/GP12, B7 ADDR2, B8 ADDR9, B9 ADDR12, B15 DATA9, B17 DATA15, C2 nGCS5/GP16, C3 nGCS2/GP13, C4 nGCS3/GP14, C5 nOE, C7 ADDR4, C8 ADDR11, C9 ADDR15, C10 ADDR21/GP6, C11 ADDR24/GP9, C12 DATA1, C13 DATA6, C14 DATA11, C15 DATA13, C16 DATA16, D3 nGCS4/GP15, D7 ADDR7, D8 ADDR5, D9 ADDR16/GP1, D10 ADDR20GP5, D11 ADDR26/GP11, D12 DATA0, D13 DATA8, D14 DATA14, D15 DATA12, E4 nWAIT, E6 nWE, E7 ADDR1, E8 ADDR6, E9 ADDR14, E10 ADDR23/GP8, E11 DATA2, E12 DATA20, E13 DATA19, E14 DATA18, E15 DATA17, E16 DATA21, E17 DATA24, F6 nGCS0, F7 ADDR0, F8 ADDR3, F9 ADDR17/GP3, F10 DATA4, F11 DATA5, F12 DATA27, F13 DATA31, F14 DATA26, F15 DATA22, G8 ADDR8, G9 ADDR17/GP2, G10 ADDR24/GP10, G11 DATA28, G12 DATA25, G13 DATA23, G14 XTIPLL, G15 XTOPLL, G16 DATA29, H8 ADDR13, H9 ADDR19/GP4, H10 ADDR22/GP7, H12 EXTCLK, H13 DATA30, J5 TOUT1/GPB1, J6 TOUT0/GPB0, J7 TOUT2/GPB2, K2 nXBACK/GPB5, K3 TOUT3/GPB3, K4 TCLK0/GPB4, K5 nXDREQ1/GPB8, K6 nXDREQ0/GPB10, K7 nXDACK1/GPB7, L3 nXDACK0/GPB9, L5 nXBREQ/GPB6, L12 XTOrtc, M14 XTIrtc, N14 MPLLCAP, P10 CLKOUT1/GPH10, P13 OM2, P15 AIN3, P16 AIN7/TSXP, P17 UPLLCAP, R9 CLKOUT0/GPH9, R13 OM1, R14 AIN0, R15 AIN2, R16 AIN6/TSXM, T13 OM3, T15 OM0, T16 AIN4/TSYM, T17 AIN5/TSYP, U12 TCLK1/EINT19/GPG11, U16 Vref, U17 AIN1
part B pins: A2 SCKE, B3 SCLK1, B4 SCLK0, B5 nBE1:nWBE1:DQM1, C6 nSRAS, D1 ALE/GPA18, D2 nGCS6:nSCS0, D4 nBE0:nWBE0:DQM0, D5 nBE2:nWBE2:DQM2, D6 nSCAS, E1 nFRE/GPA20, E3 nGCS7:nSCS1, E5 nBE3:nWBE3:DQM3, F3 nFWE/GPA19, F4 nFCE/GPA22, F5 CLE/GPA17, G6 FRNB, H15 nTRST, H17 TDI, J9 SDDATA3/GPE10, J10 nSS0/EINT10/GPG2, J11 TXD2/nRTS1/GPH6, J13 TCK, J14 TMS, J15 RXD2/nCTS1/GPH7, J16 TDO, K8 SDCMD/GPE6, K9 SPIMISO0/GPE11, K10 SPIMISO1/EINT13/GPG5, K11 nCTS0/GPH0, K13 TXD0/GPH2, K14 RXD0/GPH3, K15 UCLK/GPH8, K16 TXD1/GPH4, K17 RXD1/GPH5, L1 LEND/GPCO, L4 VCLK/GPC1, L6 VD1/GPC9, L7 VFRAME:VSYNC/GPC3, L8 I2SSDI/AC_SDATA_IN/GPE3, L9 SPICLK0/GPE13, L10 SPICLK1/EINT15/GPG7, L11 EINT22/GPG14, L17 nRTS0/GPH1, M1 VLINE:HSYNC/GPC2, M2 LCD_LPCREV/GPC6, M3 LCD_LPCOE/GPC5, M4 VM:VEND/GPC4, M5 VD9/GPD1, M6 VD6/GPC14, M7 VD16/GPD8/SPIMISO1, M8 SDDATA1/GPE8, M9 IICSDA/GPE15, M10 EINT20/GPG12, N2 VD0/GPC8, N3 VD4/GPC12, N4 VD2/GPC10, N5 VD10/GPD2, N6 VD15/GPD7/USBOEN1, N7 VD22/NSS1/GPD14, N8 SDCLK/GPE5, N11 DP0, N12 DN1/PDN0, P1 LCD_LPCREVB/GPC7, P2 VD5/GPC13, P3 VD7/GPC15, P4 VD12/GPD4, P5 VD14/GPD6/USBTXDP1, P6 VD20/GPD12/USBRXDN1, P7 I2SLRCK/AC_SYNC/GPE0, P8 SDDATA2/GPE9, P9 SPIMOSI0/GPE12, P11 LCD_PWREN/EINT12/GPG4, P12 DN0, R1 VD3/GPC11, R2 VD8/GPD0, R3 VD11/GPD3, R4 VD13/GPD5/USBTXDN1, R5 VD18/GPD10/SPICLK1, R6 VD21/GPD13/USBRXD1, R7 I2SSCLK/AC_BIT_CLK/GPE1, R8 SDDATA0/GPE7, R10 nSS1/EINT11/GPG3, R11 SPIMOSI1/EINT14/GPG6, R12 NCON, T4 VD17/GPD9/SPIMOSI1, T5 VD19/GPD11/USBRXDP1, T7 CDCLK/AC_nRESET/GPE2, T11 EINT21/GPG13, U5 VD23/NSS0/GPD15, U6 I2SSDO/AC_SDATA_OUT/GPE4, U8 IICSCL/GPE14, U13 EINT23/GPG15, U14 DP1/DPD0
part C pins: A1 VDDi1(1.2V), A3 VSSI1, A4 VSSI2, A5 VSSMOP1, A6 VDDi2(1.2V), A7 VSSMOP2, A9 VDDMOP1(3.3V), A10 VDDi3(1.2V), A11 VSSMOP3, A12 VSSI3, A15 VSSMOP4, A16 VDDi4(1.2V), B1 VSSMOP5, B6 VDDMOP2(3.3V), B10 VSSI4, B11 VDDi5(1.2V), B12 VDDMOP3(3.3V), B13 VSSMOP6, B14 VDDMOP4(3.3V), B16 VDDMOP5(3.3V), C1 VDDMOP6(3.3V), C17 VSSI5, D16 VSSMOP7, D17 VSSMOP8, E2 VSSMOP9, F1 VDDi6(1.2V), F2 VSSI6, F16 VDDi7(1.2V), F17 VDDMOP7(3.3V), G1 VSSOP1, G2 CAMHREF/GPJ10, G3 CAMDATA1/GPJ1, G4 VDDAlive1(1.2V), G5 CAMPCLK/GPJ8, G7 CAMVSYNC/GPJ9, G17 VSSI7, H1 VSSiarm1, H2 CAMDATA7/GPJ7, H3 CAMDATA4/GPJ4, H4 CAMDATA3/GPJ3, H5 CAMDATA2/GPJ2, H6 CAMDATA0/GPJ0, H7 CAMDATA5/GPJ5, H11 VSSOP2, H14 nBATT_FLT, H16 nREST, J1 VDDDOP1(3.3V), J2 VDDiarm1(1.2V), J3 CACLKOUT/GPJ11, J4 CAMRESET/GPJ12, J8 CAMDATA6/GPJ6, J12 PWREN, J17 VDDAlive2(1.2V), K1 VSSiarm2, K12 VDDDOP2(3.3V), L2 VDDiarm2(1.2V), L13 EINT2/GPF2, L14 EINT5/GPF5, L15 EINT6/GPF6, L16 EINT7/GPF7, M11 EINT17/GPG9/nRTS1, M12 VSSA_UPLL, M13 VDDA_UPLL(1.2V), M15 EINT3/GPF3, M16 EINT1/GPF1, M17 EINT4/GPF4, N1 VSSOP3, N9 EINT8/GPG0, N10 EINT18/GPG10/nCTS1, N13 nRSTOUT/GPA21, N15 VDD_RTC(3.3V), N16 VDDA_MPLL(1.2V), N17 EINT0/GPF0, P14 VDDA_ADC(3.3V), R17 VSSA_MPLL, T1 VSSiarm3, T2 VSSiarm4, T3 VDDDOP3(3.3V), T6 VDDiarm5(1.2V), T8 VDDiarm6(1.2V), T9 EINT9/GPG1, T10 EINT16/GPG8, T12 VDDDOP4(3.3V), T14 VSSA_ADC, U1 VDDiarm3(1.2V), U2 VDDiarm4(1.2V), U3 VSSOP4, U4 VSSiarm5, U7 VSSiarm6, U9 VSSOP5, U10 VSSiarm7, U11 VDDi8(1.2V), U15 VSSOP6
part A text: DMA; Chip Select; Data; Address; Clock; Timer; ADC/TSP
part B text: USB; IIC; EINT; SPI; IIS; SDRAM; LCD Data; NAND Controller; LCD Control; SDIO; UART; JTAG
part C text: External Interrupt; Camera interface

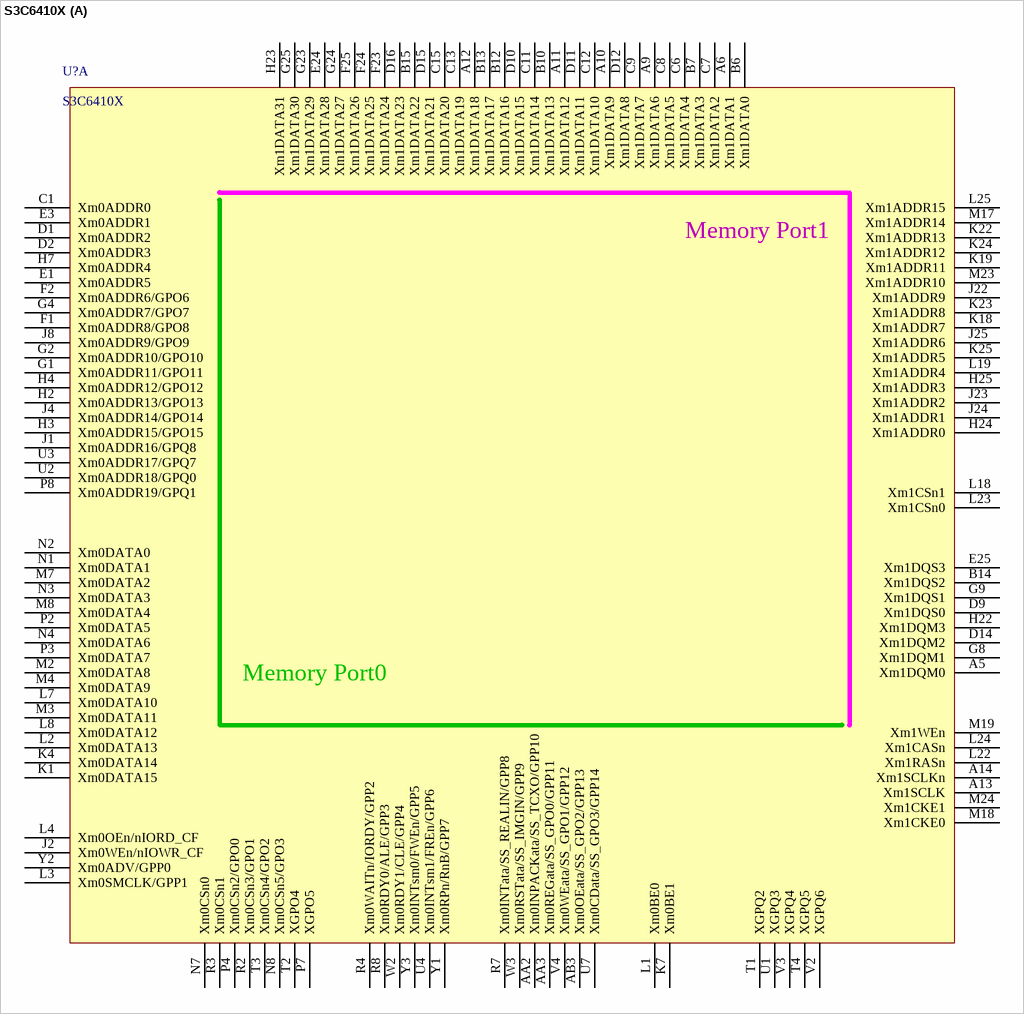
[diagram p37: symbol S3C6410X]

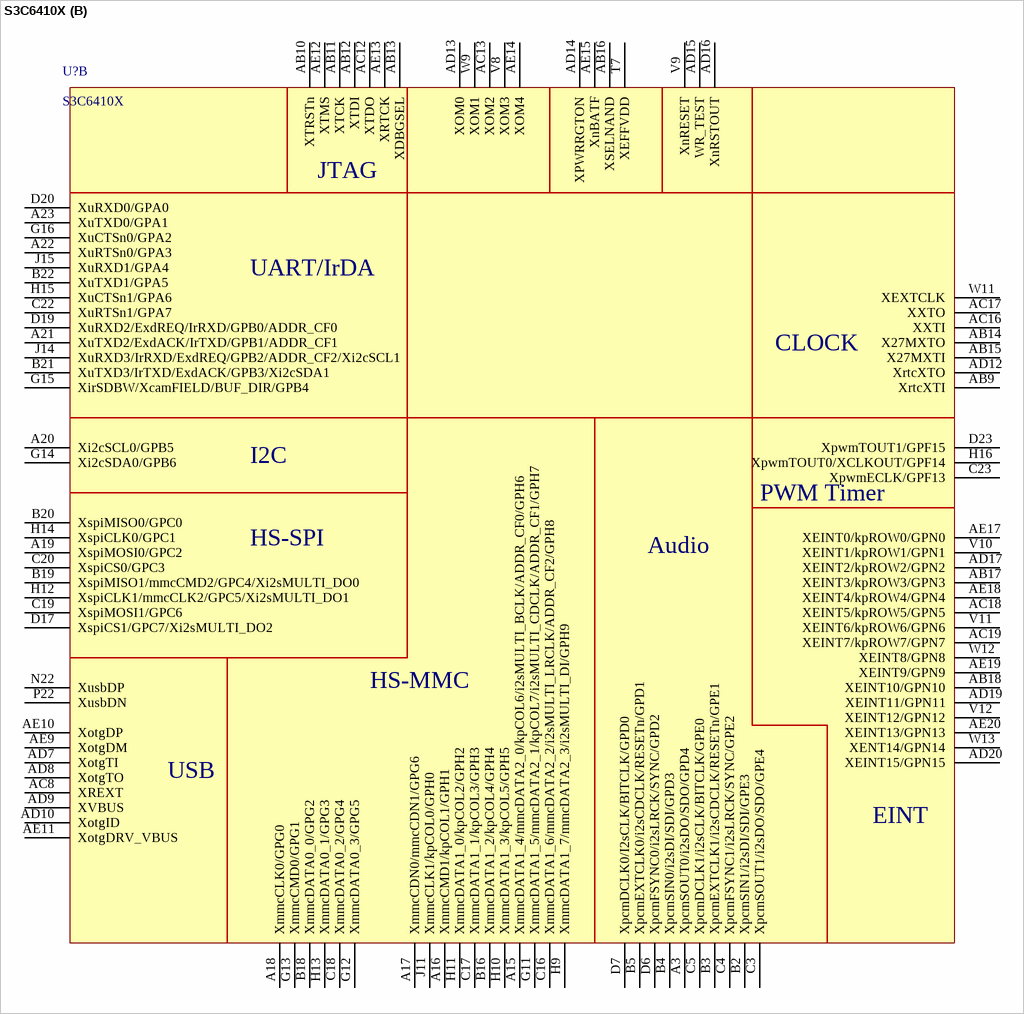
[diagram p38: symbol S3C6410X]

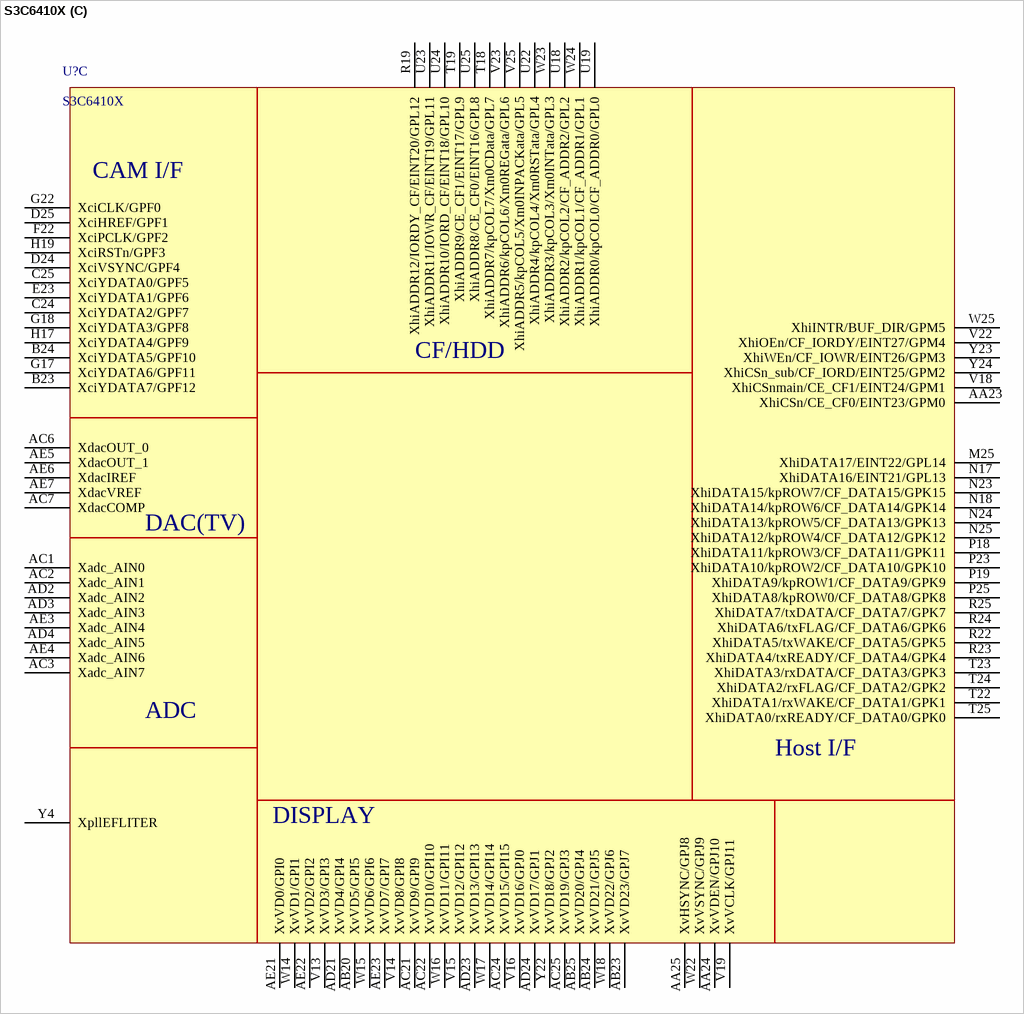
[diagram p39: symbol S3C6410X]

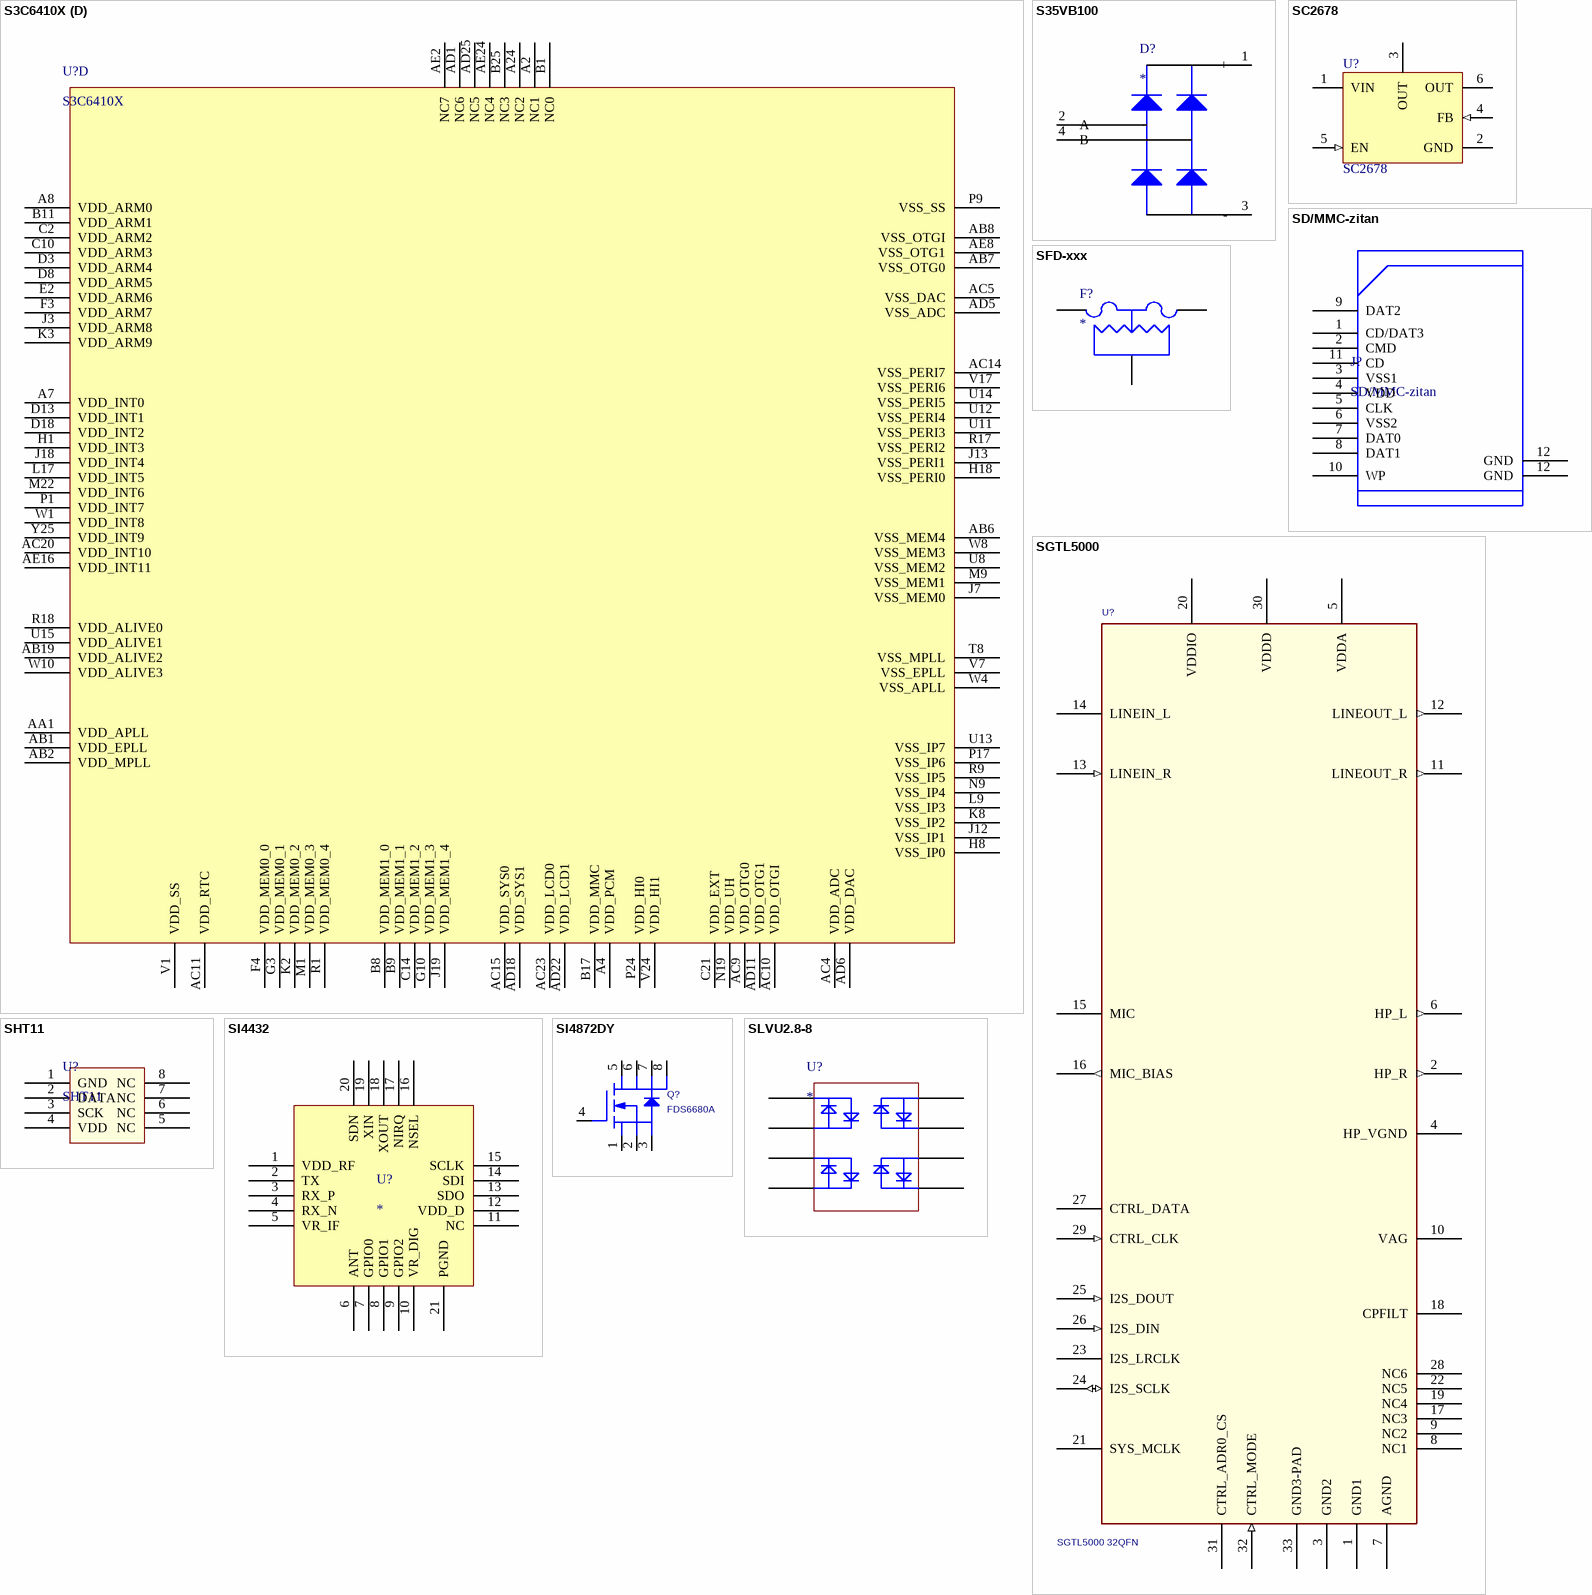
[diagram p40: symbols S3C6410X to SLVU2.8-8]

## S3C6410X
designator U?
part A pins: A5 Xm1DQM0, A6 Xm1DATA1, A9 Xm1DATA6, A10 Xm1DATA9, A11 Xm1DATA12, A12 Xm1DATA18, A13 Xm1SCLK, A14 Xm1SCLKn, AA2 Xm0INPACKata/SS_TCXO/GPP10, AA3 Xm0REGata/SS_GPO0/GPP11, AB3 Xm0OEata/SS_GPO2/GPP13, B6 Xm1DATA0, B7 Xm1DATA3, B10 Xm1DATA13, B12 Xm1DATA16, B13 Xm1DATA17, B14 Xm1DQS2, B15 Xm1DATA22, C1 Xm0ADDR0, C6 Xm1DATA4, C7 Xm1DATA2, C8 Xm1DATA5, C9 Xm1DATA7, C11 Xm1DATA14, C12 Xm1DATA10, C13 Xm1DATA19, C15 Xm1DATA20, D1 Xm0ADDR2, D2 Xm0ADDR3, D9 Xm1DQS0, D10 Xm1DATA15, D11 Xm1DATA11, D12 Xm1DATA8, D14 Xm1DQM2, D15 Xm1DATA21, D16 Xm1DATA23, E1 Xm0ADDR5, E3 Xm0ADDR1, E24 Xm1DATA28, E25 Xm1DQS3, F1 Xm0ADDR8/GPO8, F2 Xm0ADDR6/GPO6, F23 Xm1DATA24, F24 Xm1DATA25, F25 Xm1DATA26, G1 Xm0ADDR11/GPO11, G2 Xm0ADDR10/GPO10, G4 Xm0ADDR7/GPO7, G8 Xm1DQM1, G9 Xm1DQS1, G23 Xm1DATA29, G24 Xm1DATA27, G25 Xm1DATA30, H2 Xm0ADDR13/GPO13, H3 Xm0ADDR15/GPO15, H4 Xm0ADDR12/GPO12, H7 Xm0ADDR4, H22 Xm1DQM3, H23 Xm1DATA31, H24 Xm1ADDR0, H25 Xm1ADDR3, J1 Xm0ADDR16/GPQ8, J2 Xm0WEn/nIOWR_CF, J4 Xm0ADDR14/GPO14, J8 Xm0ADDR9/GPO9, J22 Xm1ADDR9, J23 Xm1ADDR2, J24 Xm1ADDR1, J25 Xm1ADDR6, K1 Xm0DATA15, K4 Xm0DATA14, K7 Xm0BE1, K18 Xm1ADDR7, K19 Xm1ADDR11, K22 Xm1ADDR13, K23 Xm1ADDR8, K24 Xm1ADDR12, K25 Xm1ADDR5, L1 Xm0BE0, L2 Xm0DATA13, L3 Xm0SMCLK/GPP1, L4 Xm0OEn/nIORD_CF, L7 Xm0DATA10, L8 Xm0DATA12, L18 Xm1CSn1, L19 Xm1ADDR4, L22 Xm1RASn, L23 Xm1CSn0, L24 Xm1CASn, L25 Xm1ADDR15, M2 Xm0DATA8, M3 Xm0DATA11, M4 Xm0DATA9, M7 Xm0DATA2, M8 Xm0DATA4, M17 Xm1ADDR14, M18 Xm1CKE0, M19 Xm1WEn, M23 Xm1ADDR10, M24 Xm1CKE1, N1 Xm0DATA1, N2 Xm0DATA0, N3 Xm0DATA3, N4 Xm0DATA6, N7 Xm0CSn0, N8 Xm0CSn5/GPO3, P2 Xm0DATA5, P3 Xm0DATA7, P4 Xm0CSn2/GPO0, P7 XGPO5, P8 Xm0ADDR19/GPQ1, R2 Xm0CSn3/GPO1, R3 Xm0CSn1, R4 Xm0WAITn/IORDY/GPP2, R7 Xm0INTata/SS_REALIN/GPP8, R8 Xm0RDY0/ALE/GPP3, T1 XGPQ2, T2 XGPO4, T3 Xm0CSn4/GPO2, T4 XGPQ5, U1 XGPQ3, U2 Xm0ADDR18/GPQ0, U3 Xm0ADDR17/GPQ7, U4 Xm0INTsm1/FREn/GPP6, U7 Xm0CData/SS_GPO3/GPP14, V2 XGPQ6, V3 XGPQ4, V4 Xm0WEata/SS_GPO1/GPP12, W2 Xm0RDY1/CLE/GPP4, W3 Xm0RSTata/SS_IMGIN/GPP9, Y1 Xm0RPn/RnB/GPP7, Y2 Xm0ADV/GPP0, Y3 Xm0INTsm0/FWEn/GPP5
part B pins: A3 XpcmSOUT0/i2sDO/SDO/GPD4, A15 XmmcDATA1_4/mmcDATA2_0/kpCOL6/i2sMULTI_BCLK/ADDR_CF0/GPH6, A16 XmmcCMD1/kpCOL1/GPH1, A17 XmmcCDN0/mmcCDN1/GPG6, A18 XmmcCLK0/GPG0, A19 XspiMOSI0/GPC2, A20 Xi2cSCL0/GPB5, A21 XuTXD2/ExdACK/IrTXD/GPB1/ADDR_CF1, A22 XuRTSn0/GPA3, A23 XuTXD0/GPA1, AB9 XrtcXTI, AB10 XTRSTn, AB11 XTCK, AB12 XTDI, AB13 XDBGSEL, AB14 X27MXTO, AB15 X27MXTI, AB16 XSELNAND, AB17 XEINT3/kpROW3/GPN3, AB18 XEINT10/GPN10, AC8 XREXT, AC12 XTDO, AC13 XOM2, AC16 XXTI, AC17 XXTO, AC18 XEINT5/kpROW5/GPN5, AC19 XEINT7/kpROW7/GPN7, AD7 XotgTI, AD8 XotgTO, AD9 XVBUS, AD10 XotgID, AD12 XrtcXTO, AD13 XOM0, AD14 XPWRRGTON, AD15 WR_TEST, AD16 XnRSTOUT, AD17 XEINT2/kpROW2/GPN2, AD19 XEINT11/GPN11, AD20 XEINT15/GPN15, AE9 XotgDM, AE10 XotgDP, AE11 XotgDRV_VBUS, AE12 XTMS, AE13 XRTCK, AE14 XOM4, AE15 XnBATF, AE17 XEINT0/kpROW0/GPN0, AE18 XEINT4/kpROW4/GPN4, AE19 XEINT9/GPN9, AE20 XEINT13/GPN13, B2 XpcmSIN1/i2sDI/SDI/GPE3, B3 XpcmEXTCLK1/i2sCDCLK/RESETn/GPE1, B4 XpcmSIN0/i2sDI/SDI/GPD3, B5 XpcmEXTCLK0/i2sCDCLK/RESETn/GPD1, B16 XmmcDATA1_2/kpCOL4/GPH4, B18 XmmcDATA0_0/GPG2, B19 XspiMISO1/mmcCMD2/GPC4/Xi2sMULTI_DO0, B20 XspiMISO0/GPC0, B21 XuTXD3/IrTXD/ExdACK/GPB3/Xi2cSDA1, B22 XuTXD1/GPA5, C3 XpcmSOUT1/i2sDO/SDO/GPE4, C4 XpcmFSYNC1/i2sLRCK/SYNC/GPE2, C5 XpcmDCLK1/i2sCLK/BITCLK/GPE0, C16 XmmcDATA1_6/mmcDATA2_2/i2sMULTI_LRCLK/ADDR_CF2/GPH8, C17 XmmcDATA1_1/kpCOL3/GPH3, C18 XmmcDATA0_2/GPG4, C19 XspiMOSI1/GPC6, C20 XspiCS0/GPC3, C22 XuRTSn1/GPA7, C23 XpwmECLK/GPF13, D6 XpcmFSYNC0/i2sLRCK/SYNC/GPD2, D7 XpcmDCLK0/I2sCLK/BITCLK/GPD0, D17 XspiCS1/GPC7/Xi2sMULTI_DO2, D19 XuRXD2/ExdREQ/IrRXD/GPB0/ADDR_CF0, D20 XuRXD0/GPA0, D23 XpwmTOUT1/GPF15, G11 XmmcDATA1_5/mmcDATA2_1/kpCOL7/i2sMULTI_CDCLK/ADDR_CF1/GPH7, G12 XmmcDATA0_3/GPG5, G13 XmmcCMD0/GPG1, G14 Xi2cSDA0/GPB6, G15 XirSDBW/XcamFIELD/BUF_DIR/GPB4, G16 XuCTSn0/GPA2, H9 XmmcDATA1_7/mmcDATA2_3/i2sMULTI_DI/GPH9, H10 XmmcDATA1_3/kpCOL5/GPH5, H11 XmmcDATA1_0/kpCOL2/GPH2, H12 XspiCLK1/mmcCLK2/GPC5/Xi2sMULTI_DO1, H13 XmmcDATA0_1/GPG3, H14 XspiCLK0/GPC1, H15 XuCTSn1/GPA6, H16 XpwmTOUT0/XCLKOUT/GPF14, J11 XmmcCLK1/kpCOL0/GPH0, J14 XuRXD3/IrRXD/ExdREQ/GPB2/ADDR_CF2/Xi2cSCL1, J15 XuRXD1/GPA4, N22 XusbDP, P22 XusbDN, T7 XEFFVDD, V8 XOM3, V9 XnRESET, V10 XEINT1/kpROW1/GPN1, V11 XEINT6/kpROW6/GPN6, V12 XEINT12/GPN12, W9 XOM1, W11 XEXTCLK, W12 XEINT8/GPN8, W13 XENT14/GPN14
part C pins: AA23 XhiCSn/CE_CF0/EINT23/GPM0, AA24 XvVDEN/GPJ10, AA25 XvHSYNC/GPJ8, AB20 XvVD5/GPI5, AB23 XvVD23/GPJ7, AB24 XvVD21/GPJ5, AB25 XvVD20/GPJ4, AC1 Xadc_AIN0, AC2 Xadc_AIN1, AC3 Xadc_AIN7, AC6 XdacOUT_0, AC7 XdacCOMP, AC21 XvVD9/GPI9, AC22 XvVD10/GPI10, AC24 XvVD15/GPI15, AC25 XvVD19/GPJ3, AD2 Xadc_AIN2, AD3 Xadc_AIN3, AD4 Xadc_AIN5, AD21 XvVD4/GPI4, AD23 XvVD13/GPI13, AD24 XvVD17/GPJ1, AE3 Xadc_AIN4, AE4 Xadc_AIN6, AE5 XdacOUT_1, AE6 XdacIREF, AE7 XdacVREF, AE21 XvVD0/GPI0, AE22 XvVD2/GPI2, AE23 XvVD7/GPI7, B23 XciYDATA7/GPF12, B24 XciYDATA5/GPF10, C24 XciYDATA2/GPF7, C25 XciYDATA0/GPF5, D24 XciVSYNC/GPF4, D25 XciHREF/GPF1, E23 XciYDATA1/GPF6, F22 XciPCLK/GPF2, G17 XciYDATA6/GPF11, G18 XciYDATA3/GPF8, G22 XciCLK/GPF0, H17 XciYDATA4/GPF9, H19 XciRSTn/GPF3, M25 XhiDATA17/EINT22/GPL14, N17 XhiDATA16/EINT21/GPL13, N18 XhiDATA14/kpROW6/CF_DATA14/GPK14, N23 XhiDATA15/kpROW7/CF_DATA15/GPK15, N24 XhiDATA13/kpROW5/CF_DATA13/GPK13, N25 XhiDATA12/kpROW4/CF_DATA12/GPK12, P18 XhiDATA11/kpROW3/CF_DATA11/GPK11, P19 XhiDATA9/kpROW1/CF_DATA9/GPK9, P23 XhiDATA10/kpROW2/CF_DATA10/GPK10, P25 XhiDATA8/kpROW0/CF_DATA8/GPK8, R19 XhiADDR12/IORDY_CF/EINT20/GPL12, R22 XhiDATA5/txWAKE/CF_DATA5/GPK5, R23 XhiDATA4/txREADY/CF_DATA4/GPK4, R24 XhiDATA6/txFLAG/CF_DATA6/GPK6, R25 XhiDATA7/txDATA/CF_DATA7/GPK7, T18 XhiADDR7/kpCOL7/Xm0CData/GPL7, T19 XhiADDR9/CE_CF1/EINT17/GPL9, T22 XhiDATA1/rxWAKE/CF_DATA1/GPK1, T23 XhiDATA3/rxDATA/CF_DATA3/GPK3, T24 XhiDATA2/rxFLAG/CF_DATA2/GPK2, T25 XhiDATA0/rxREADY/CF_DATA0/GPK0, U18 XhiADDR2/kpCOL2/CF_ADDR2/GPL2, U19 XhiADDR0/kpCOL0/CF_ADDR0/GPL0, U22 XhiADDR4/kpCOL4/Xm0RSTata/GPL4, U23 XhiADDR11/IOWR_CF/EINT19/GPL11, U24 XhiADDR10/IORD_CF/EINT18/GPL10, U25 XhiADDR8/CE_CF0/EINT16/GPL8, V13 XvVD3/GPI3, V14 XvVD8/GPI8, V15 XvVD12/GPI12, V16 XvVD16/GPJ0, V18 XhiCSnmain/CE_CF1/EINT24/GPM1, V19 XvVCLK/GPJ11, V22 XhiOEn/CF_IORDY/EINT27/GPM4, V23 XhiADDR6/kpCOL6/Xm0REGata/GPL6, V25 XhiADDR5/kpCOL5/Xm0INPACKata/GPL5, W14 XvVD1/GPI1, W15 XvVD6/GPI6, W16 XvVD11/GPI11, W17 XvVD14/GPI14, W18 XvVD22/GPJ6, W22 XvVSYNC/GPJ9, W23 XhiADDR3/kpCOL3/Xm0INTata/GPL3, W24 XhiADDR1/kpCOL1/CF_ADDR1/GPL1, W25 XhiINTR/BUF_DIR/GPM5, Y4 XpllEFLITER, Y22 XvVD18/GPJ2, Y23 XhiWEn/CF_IOWR/EINT26/GPM3, Y24 XhiCSn_sub/CF_IORD/EINT25/GPM2
part D pins: A2 NC1, A4 VDD_PCM, A7 VDD_INT0, A8 VDD_ARM0, A24 NC2, AA1 VDD_APLL, AB1 VDD_EPLL, AB2 VDD_MPLL, AB6 VSS_MEM4, AB7 VSS_OTG0, AB8 VSS_OTGI, AB19 VDD_ALIVE2, AC4 VDD_ADC, AC5 VSS_DAC, AC9 VDD_OTG0, AC10 VDD_OTGI, AC11 VDD_RTC, AC14 VSS_PERI7, AC15 VDD_SYS0, AC20 VDD_INT10, AC23 VDD_LCD0, AD1 NC6, AD5 VSS_ADC, AD6 VDD_DAC, AD11 VDD_OTG1, AD18 VDD_SYS1, AD22 VDD_LCD1, AD25 NC5, AE2 NC7, AE8 VSS_OTG1, AE16 VDD_INT11, AE24 NC4, B1 NC0, B8 VDD_MEM1_0, B9 VDD_MEM1_1, B11 VDD_ARM1, B17 VDD_MMC, B25 NC3, C2 VDD_ARM2, C10 VDD_ARM3, C14 VDD_MEM1_2, C21 VDD_EXT, D3 VDD_ARM4, D8 VDD_ARM5, D13 VDD_INT1, D18 VDD_INT2, E2 VDD_ARM6, F3 VDD_ARM7, F4 VDD_MEM0_0, G3 VDD_MEM0_1, G10 VDD_MEM1_3, H1 VDD_INT3, H8 VSS_IP0, H18 VSS_PERI0, J3 VDD_ARM8, J7 VSS_MEM0, J12 VSS_IP1, J13 VSS_PERI1, J18 VDD_INT4, J19 VDD_MEM1_4, K2 VDD_MEM0_2, K3 VDD_ARM9, K8 VSS_IP2, L9 VSS_IP3, L17 VDD_INT5, M1 VDD_MEM0_3, M9 VSS_MEM1, M22 VDD_INT6, N9 VSS_IP4, N19 VDD_UH, P1 VDD_INT7, P9 VSS_SS, P17 VSS_IP6, P24 VDD_HI0, R1 VDD_MEM0_4, R9 VSS_IP5, R17 VSS_PERI2, R18 VDD_ALIVE0, T8 VSS_MPLL, U8 VSS_MEM2, U11 VSS_PERI3, U12 VSS_PERI4, U13 VSS_IP7, U14 VSS_PERI5, U15 VDD_ALIVE1, V1 VDD_SS, V7 VSS_EPLL, V17 VSS_PERI6, V24 VDD_HI1, W1 VDD_INT8, W4 VSS_APLL, W8 VSS_MEM3, W10 VDD_ALIVE3, Y25 VDD_INT9
part A text: Memory Port1; Memory Port0
part B text: JTAG; UART/IrDA; CLOCK; I2C; PWM Timer; HS-SPI; Audio; HS-MMC; USB; EINT
part C text: CAM I/F; CF/HDD; DAC(TV); ADC; Host I/F; DISPLAY

## S35VB100
designator D?
pins: 1 +, 2 A, 3 -, 4 B

## SC2678
designator U?
SIMPLE SWITCHER; 3A Step-Down Voltage Regulator; PartNumber: LM2576S-5.0; Manufacturer: National Semiconductor; PackageTopMarking: NSUZXYTT*LM2576S*-5.0 P+; Published: 27-Nov-2008; DatasheetVersion: Aug-2004; PackageVersion: revD, Apr-2005; PackageReference: TS5B; Publisher: Altium Limited; PackageDescription: TO-263, Molded, .400 x .390 x .180in, 5 Lead, .067in Pitch, Surface Mount; CompType: Switcher; RoHS: O; PinCount: 5; DigiKeyPartNumber: LM2576S-5.0-ND; Code_JEDEC: MO-169-AB; ComponentLink1Description: LM2576 Datasheet; ComponentLink1URL: http://www.national.com/ds/LM/LM2576.pdf; ComponentLink2Description: LM2576 Web Page; ComponentLink2URL: http://www.national.com/pf/LM/LM2576.html; ComponentLink3Description: TS5B Package Page; ComponentLink3URL: http://www.national.com/packaging/folders/ts5b.html
footprint TS5B_N (D2-PAK, 6-Leads, Body 8.6x10.2mm, Pitch 1.7mm, Lead Span 14.1mm, IPC Medium Density)
footprint TS5B_L (D2-PAK, 6-Leads, Body 8.6x10.2mm, Pitch 1.7mm, Lead Span 14.1mm, IPC High Density)
footprint TS5B_M (D2-PAK, 6-Leads, Body 8.6x10.2mm, Pitch 1.7mm, Lead Span 14.1mm, IPC Low Density)
footprint TS5B_M (D2-PAK, 6-Leads, Body 8.6x10.2mm, Pitch 1.7mm, Lead Span 14.1mm, IPC Low Density)
pins: 1 VIN (power), 2 GND (power), 3 OUT (power), 4 FB (in), 5 EN (in), 6 OUT (power)

## SD/MMC-zitan
designator J?
footprint SD/MMC-zitan
pins: 1 CD/DAT3, 2 CMD, 3 VSS1, 4 VDD, 5 CLK, 6 VSS2, 7 DAT0, 8 DAT1, 9 DAT2, 10 WP, 11 CD, 12 GND (power), 12 GND (power)

## SFD-xxx
designator F?
pins: 1, 2, 3

## SGTL5000
designator U?, comment SGTL5000 32QFN
IC AUDIO CODEC STEREO 8-27MHZ 1.8-3.3V QFN32; CAD_APPROVED: Yes; MFG_PN01: SGTL5000XNAA3R2; MFG_NAME01: FREESCALE SEMICONDUCTOR; AGILE_PN: 315-77907; HEIGHT: 0.9MM; ROHS: Yes
pins: 1 GND1, 2 HP_R (out), 3 GND2, 4 HP_VGND, 5 VDDA, 6 HP_L (out), 7 AGND, 8 NC1, 9 NC2, 10 VAG, 11 LINEOUT_R (out), 12 LINEOUT_L (out), 13 LINEIN_R (in), 14 LINEIN_L, 15 MIC, 16 MIC_BIAS (out), 17 NC3, 18 CPFILT, 19 NC4, 20 VDDIO, 21 SYS_MCLK, 22 NC5, 23 I2S_LRCLK, 24 I2S_SCLK (io), 25 I2S_DOUT (in), 26 I2S_DIN (in), 27 CTRL_DATA (hiz), 28 NC6, 29 CTRL_CLK (in), 30 VDDD, 31 CTRL_ADR0_CS, 32 CTRL_MODE (in), 33 GND3-PAD

## SHT11
designator U?
pins: 1 GND, 2 DATA, 3 SCK, 4 VDD, 5 NC, 6 NC, 7 NC, 8 NC

## SI4432
designator U?
pins: 1 VDD_RF, 2 TX, 3 RX_P, 4 RX_N, 5 VR_IF, 6 ANT, 7 GPIO0, 8 GPIO1, 9 GPIO2, 10 VR_DIG, 11 NC, 12 VDD_D, 13 SDO, 14 SDI, 15 SCLK, 16 NSEL, 17 NIRQ, 18 XOUT, 19 XIN, 20 SDN, 21 PGND

## SI4872DY
designator Q?, comment FDS6680A
MOSFET N CHANNEL FAST SWITCHING; Manufacturer: Fairchild Semiconductor; Manufaturer: Fairchild; Part Class: MOSFETS; Manufacturer Part Num: FDS6680A_NL; Altera Prt #: P05-10491-00; Item Num: P18-31001R; Num Pins: 8; RoHS Compliant: Yes; Lead Free Status: No; Manufacturer Part Number: FDS6680A; Part Type: MOSFET; Manufaturer Part Number: FDS6680A; Supplier Prt #: FDS6680ATR-ND; Price: 0.44
footprint SOP8
pins: 1 S1, 2 S2, 3 S3, 4 G, 5 D1, 6 D2, 7 D3, 8 D4

## SLVU2.8-8
designator U?
pins: 1, 2, 3, 4, 5, 6, 7, 8

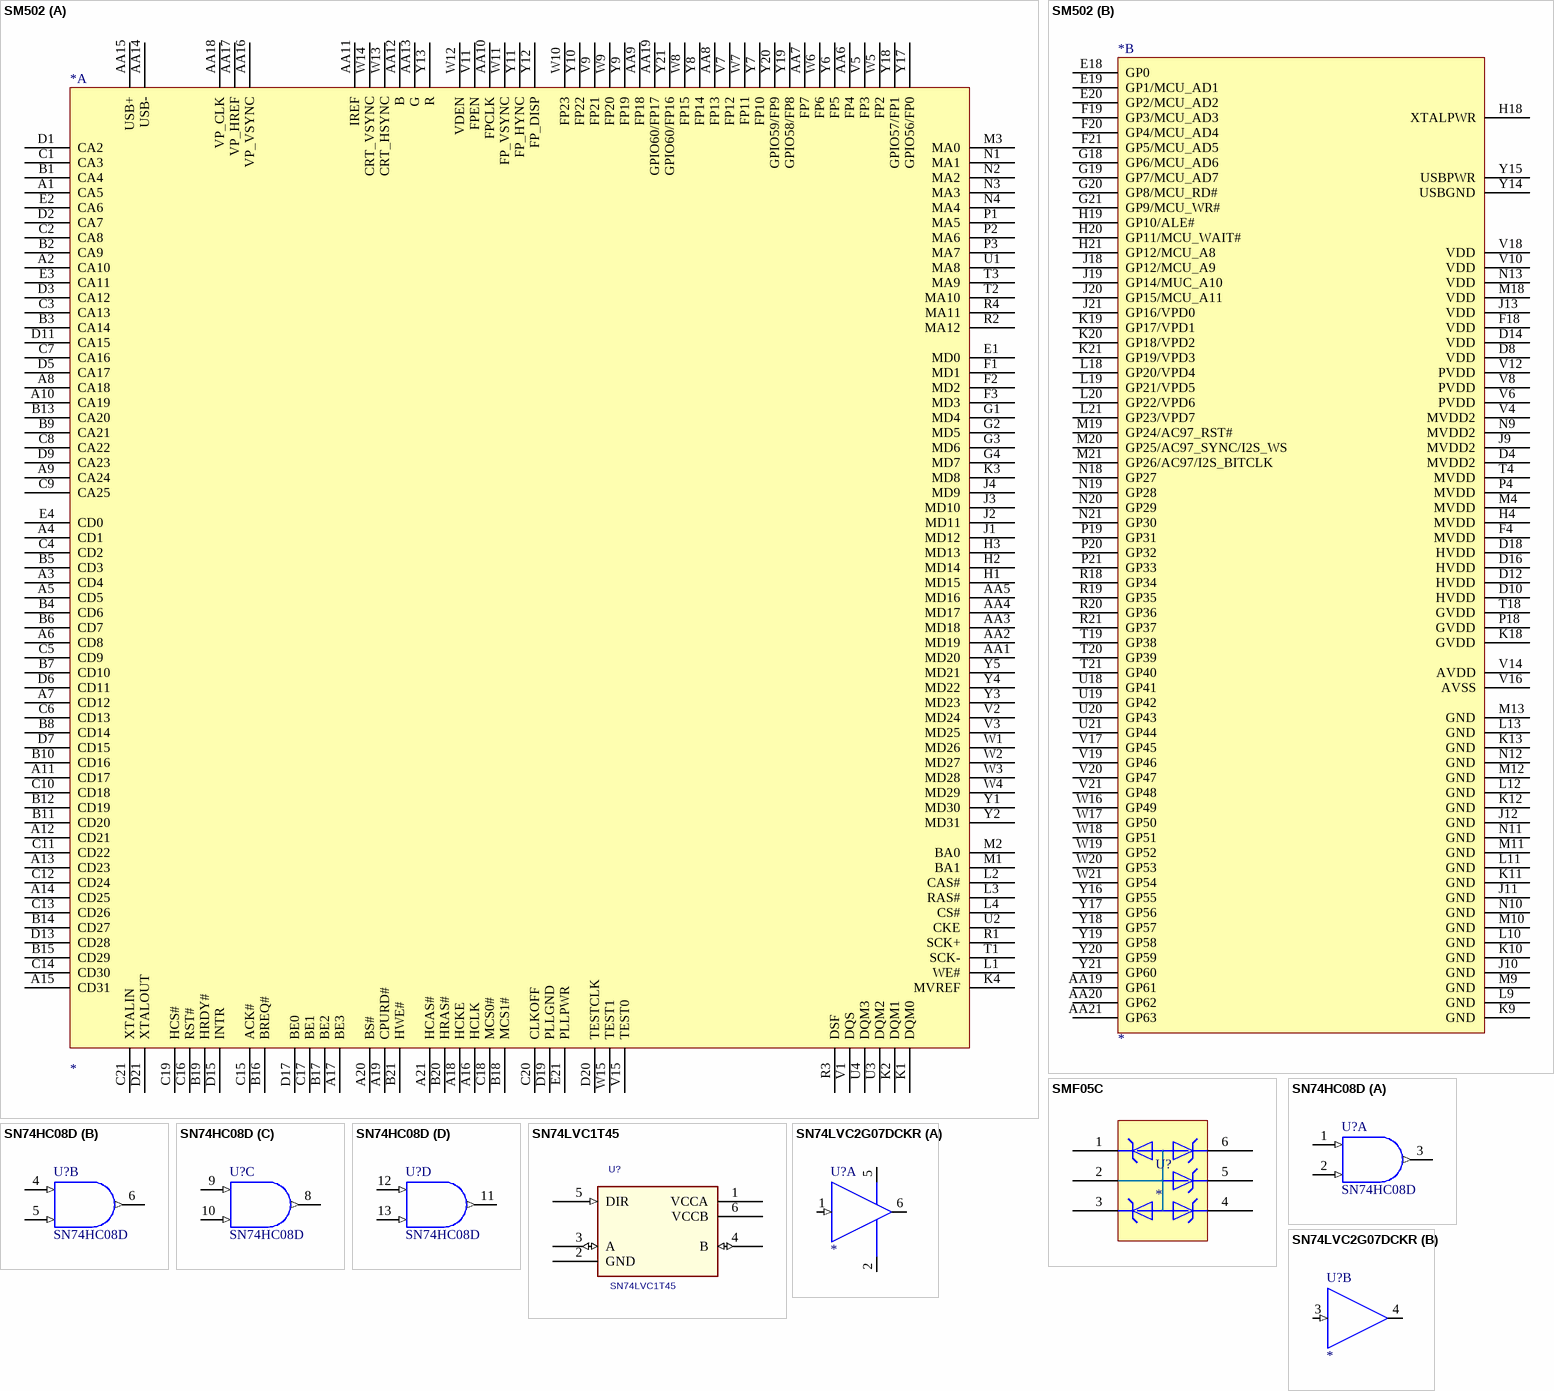
[diagram p41: symbols SM502 to SN74LVC2G07DCKR]